# Altium integrated library Supernova.IntLib: 136 symbols (part 2 of 2)
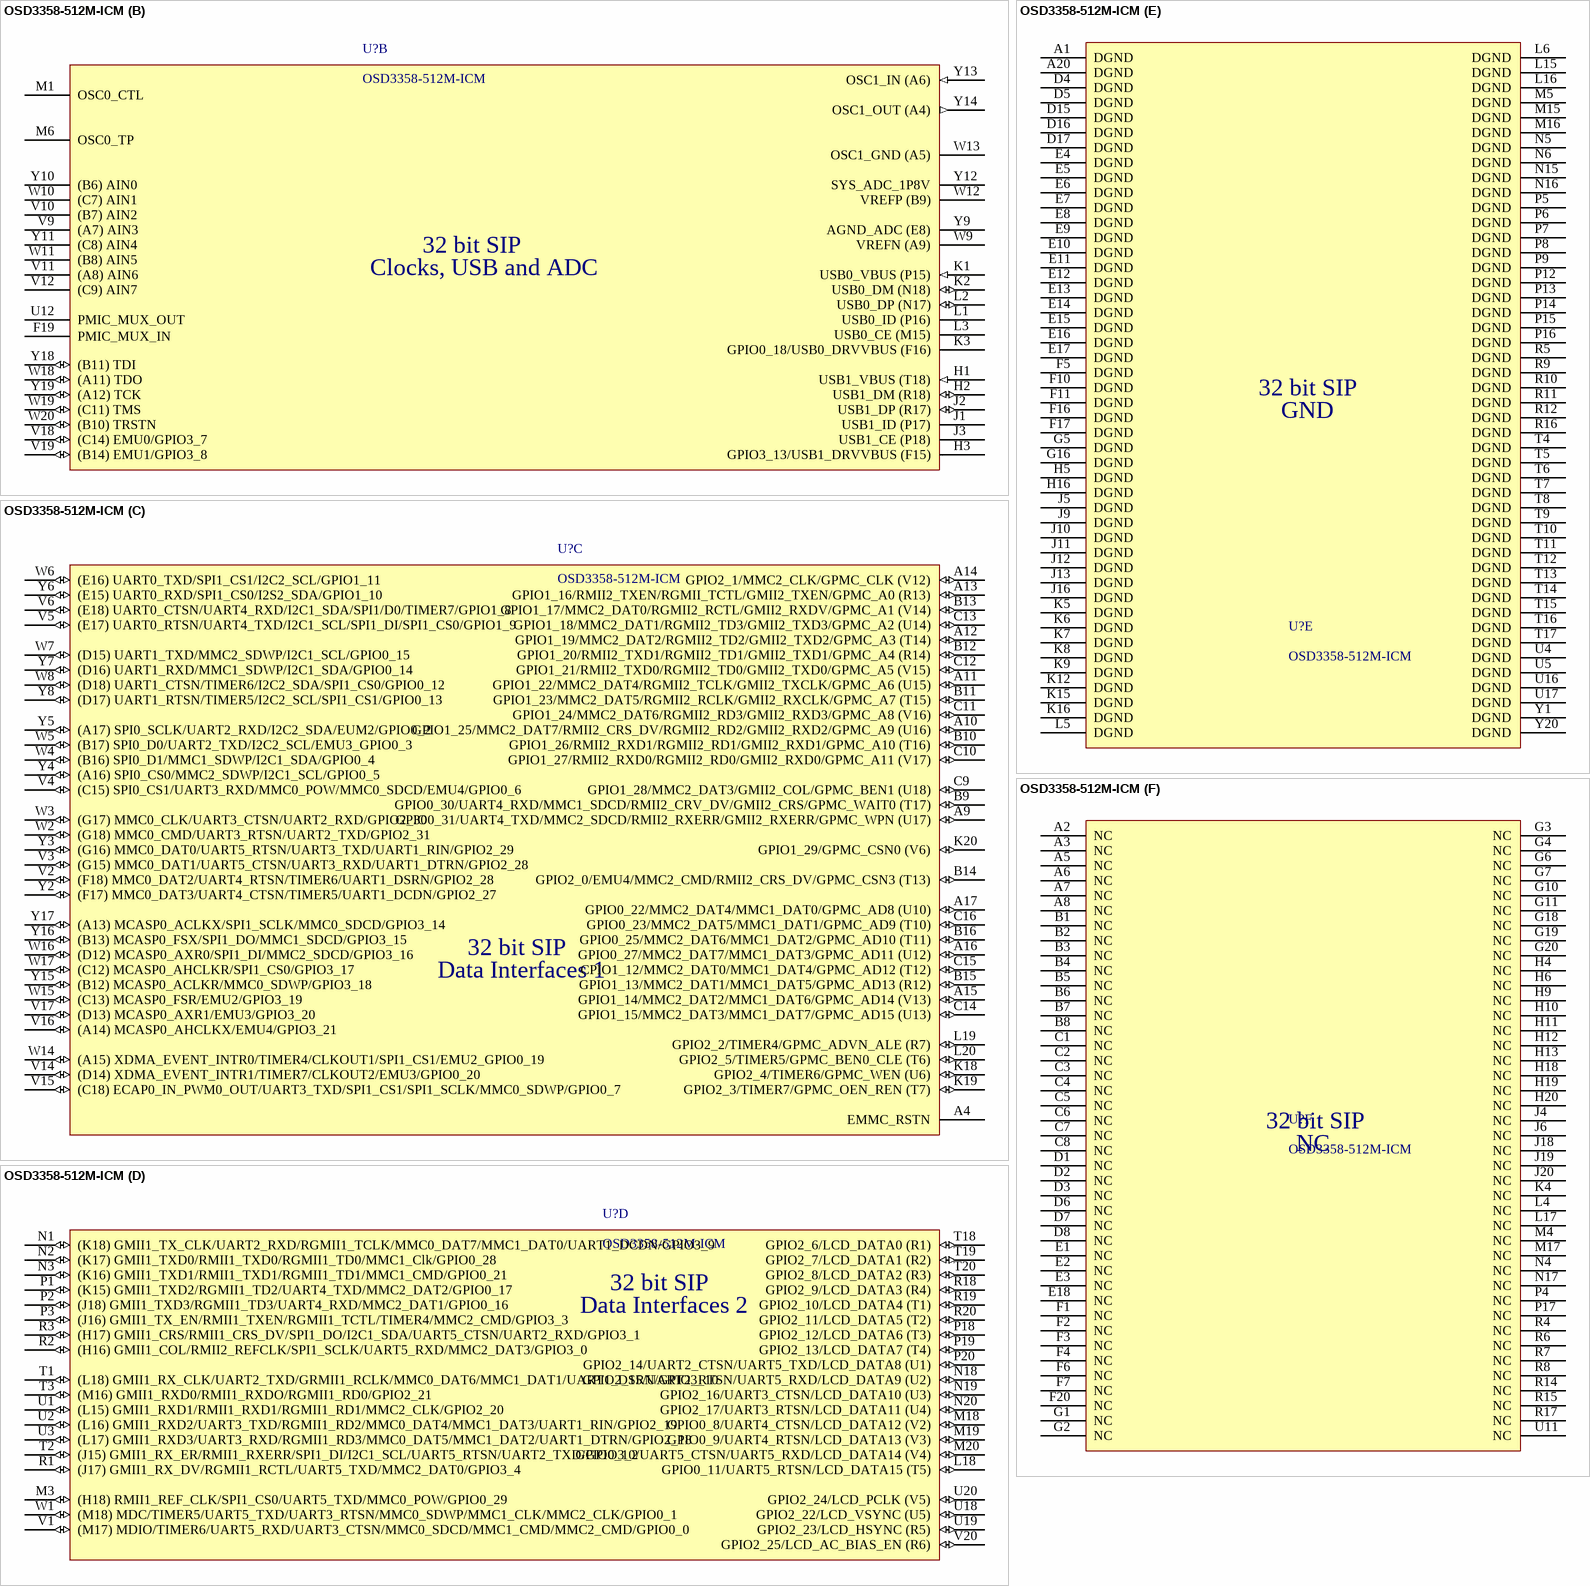
[diagram p12: symbol OSD3358-512M-ICM]

## OSD3358-512M-ICM
designator U?
IC Processor 32bit SIP with eMMC; Manufacturer: Octavo Systems; PackageDescription: 400-Ball Grid Array, 27x27x3 mm, Pitch 1.27 mm; Package: FBGA; Pin Count: 400-ball; Mounting Technology: Surface Mount; ComponentLink1Description: Manufacturer URL; ComponentLink1URL: http://www.octavosystems.com/; PackageReference: FBGA-400; PartNumber: OSD3358-512M-ICM
footprint BGA-400 1.27mm (BGA, 400-Leads, Body 27.00x27.00mmx2.60mm, Pitch 1.27mm)
part A pins: A18 PMIC_PB_IN (io), A19 PMIC_NRESET (io), B17 WARMRSTN (A10) (io), B18 VIN_USB (power), B19 VIN_USB (power), B20 VIN_USB (power), C17 PWRONRSTN_ON (io), C18 VIN_AC (power), C19 VIN_AC (power), C20 VIN_AC (power), D9 PMIC_POWER_EN (io), D10 PMIC_PWR_EN (io), D11 PWRONRSTN (B15) (io), D12 PMIC_PGOOD (io), D13 (B5) RTC_PWRONRSTN (io), D14 PMIC_LDO_PGOOD (io), D18 VIN_BAT (power), D19 VIN_BAT (power), D20 VIN_BAT (power), E19 PMIC_BAT_SENSE, E20 PMIC_TS, F8 EMMC_VCC (power), F9 EMMC_VCC (power), F12 SYS_VDD2_3P3V (power), F13 SYS_VDD2_3P3V (power), F14 SYS_VOUT (power), F15 SYS_VOUT (power), F18 SYS_VDD1_CTL (power), G8 EMMC_VCC (power), G9 EMMC_VCC (power), G12 SYS_VDD2_3P3V (power), G13 SYS_VDD2_3P3V (power), G14 SYS_VOUT (power), G15 SYS_VOUT (power), G17 PMIC_NWAKEUP (io), H7 EMMC_VCCQ (power), H8 EMMC_VCCQ (power), H14 SYS_VDD1_3P3V (power), H15 SYS_VDD1_3P3V (power), H17 (C5) EXT_WAKEUP (io), J7 EMMC_VCCQ (power), J8 EMMC_VCCQ (power), J14 SYS_VDD1_3P3V (power), J15 SYS_VDD1_3P3V (power), J17 PMIC_NINT (io), K10 SYS_VDD3_3P3V (power), K11 SYS_VDD3_3P3V (power), K13 SYS_RTC_1P8V (power), K14 SYS_RTC_1P8V (power), K17 (B18) EXTINTN (io), L7 SYS_VDD3_3P3V (power), L8 SYS_VDD3_3P3V (power), L9 SYS_VDD3_3P3V (power), L10 SYS_VDD3_3P3V (power), L11 SYS_VDD3_3P3V (power), L12 SYS_VDD3_3P3V (power), L13 SYS_RTC_1P8V (power), L14 SYS_RTC_1P8V (power), M2 EEPROM_WP (io), M7 VDDSHV4 (power), M8 VDDSHV5 (power), M9 VDDSHV3 (power), M10 VDDSHV2 (power), M11 VDDSHV1 (power), M12 VDDSHV6 (power), M13 VDDS_RTC (power), M14 VDDS (power), N7 SYS_VDD_1P8V (power), N8 SYS_VDD_1P8V (power), N9 SYS_VDD_1P8V (power), N10 SYS_VDD_1P8V (power), N11 SYS_VDD_1P8V (power), N12 SYS_VDD_1P8V (power), N13 SYS_VDD_1P8V (power), N14 SYS_VDD_1P8V (power), P10 SYS_VDD_1P8V (power), P11 SYS_VDD_1P8V (power), R13 VPP (power), U6 VDD_MPU (power), U7 PMIC_SDA (io), U8 PMIC_SCL (io), U9 VDDS_DDR (power), U10 VDDS_PLL (power), U13 VDD_CORE (power), U14 VDDS_RTC (power), U15 (B4) RTC_KALDO_ENN (io), V7 (C17) I2C0_SDA/TIMER4/UART2_CTSN/GPIO3_5 (io), V8 (C16) I2C0_SCL/TIMER7/UART2_RTSN/GPIO3_6 (io), V13 CAP_VDD_RTC (power)
part B pins: F19 PMIC_MUX_IN, H1 USB1_VBUS (T18) (in), H2 USB1_DM (R18) (io), H3 GPIO3_13/USB1_DRVVBUS (F15), J1 USB1_ID (P17), J2 USB1_DP (R17) (io), J3 USB1_CE (P18) (power), K1 USB0_VBUS (P15) (in), K2 USB0_DM (N18) (io), K3 GPIO0_18/USB0_DRVVBUS (F16), L1 USB0_ID (P16), L2 USB0_DP (N17) (io), L3 USB0_CE (M15) (power), M1 OSC0_CTL (power), M6 OSC0_TP (power), U12 PMIC_MUX_OUT, V9 (A7) AIN3, V10 (B7) AIN2, V11 (A8) AIN6, V12 (C9) AIN7, V18 (C14) EMU0/GPIO3_7 (io), V19 (B14) EMU1/GPIO3_8 (io), W9 VREFN (A9) (power), W10 (C7) AIN1, W11 (B8) AIN5, W12 VREFP (B9) (power), W13 OSC1_GND (A5) (power), W18 (A11) TDO (io), W19 (C11) TMS (io), W20 (B10) TRSTN (io), Y9 AGND_ADC (E8) (power), Y10 (B6) AIN0, Y11 (C8) AIN4, Y12 SYS_ADC_1P8V (power), Y13 OSC1_IN (A6) (in), Y14 OSC1_OUT (A4) (out), Y18 (B11) TDI (io), Y19 (A12) TCK (io)
part C pins: A4 EMMC_RSTN, A9 GPIO0_31/UART4_TXD/MMC2_SDCD/RMII2_RXERR/GMII2_RXERR/GPMC_WPN (U17) (io), A10 GPIO1_25/MMC2_DAT7/RMII2_CRS_DV/RGMII2_RD2/GMII2_RXD2/GPMC_A9 (U16) (io), A11 GPIO1_22/MMC2_DAT4/RGMII2_TCLK/GMII2_TXCLK/GPMC_A6 (U15) (io), A12 GPIO1_19/MMC2_DAT2/RGMII2_TD2/GMII2_TXD2/GPMC_A3 (T14) (io), A13 GPIO1_16/RMII2_TXEN/RGMII_TCTL/GMII2_TXEN/GPMC_A0 (R13) (io), A14 GPIO2_1/MMC2_CLK/GPMC_CLK (V12) (io), A15 GPIO1_14/MMC2_DAT2/MMC1_DAT6/GPMC_AD14 (V13) (io), A16 GPIO0_27/MMC2_DAT7/MMC1_DAT3/GPMC_AD11 (U12) (io), A17 GPIO0_22/MMC2_DAT4/MMC1_DAT0/GPMC_AD8 (U10) (io), B9 GPIO0_30/UART4_RXD/MMC1_SDCD/RMII2_CRV_DV/GMII2_CRS/GPMC_WAIT0 (T17) (io), B10 GPIO1_26/RMII2_RXD1/RGMII2_RD1/GMII2_RXD1/GPMC_A10 (T16) (io), B11 GPIO1_23/MMC2_DAT5/RGMII2_RCLK/GMII2_RXCLK/GPMC_A7 (T15) (io), B12 GPIO1_20/RMII2_TXD1/RGMII2_TD1/GMII2_TXD1/GPMC_A4 (R14) (io), B13 GPIO1_17/MMC2_DAT0/RGMII2_RCTL/GMII2_RXDV/GPMC_A1 (V14) (io), B14 GPIO2_0/EMU4/MMC2_CMD/RMII2_CRS_DV/GPMC_CSN3 (T13) (io), B15 GPIO1_13/MMC2_DAT1/MMC1_DAT5/GPMC_AD13 (R12) (io), B16 GPIO0_25/MMC2_DAT6/MMC1_DAT2/GPMC_AD10 (T11) (io), C9 GPIO1_28/MMC2_DAT3/GMII2_COL/GPMC_BEN1 (U18) (io), C10 GPIO1_27/RMII2_RXD0/RGMII2_RD0/GMII2_RXD0/GPMC_A11 (V17) (io), C11 GPIO1_24/MMC2_DAT6/RGMII2_RD3/GMII2_RXD3/GPMC_A8 (V16) (io), C12 GPIO1_21/RMII2_TXD0/RGMII2_TD0/GMII2_TXD0/GPMC_A5 (V15) (io), C13 GPIO1_18/MMC2_DAT1/RGMII2_TD3/GMII2_TXD3/GPMC_A2 (U14) (io), C14 GPIO1_15/MMC2_DAT3/MMC1_DAT7/GPMC_AD15 (U13) (io), C15 CPIO1_12/MMC2_DAT0/MMC1_DAT4/GPMC_AD12 (T12) (io), C16 GPIO0_23/MMC2_DAT5/MMC1_DAT1/GPMC_AD9 (T10) (io), K18 GPIO2_4/TIMER6/GPMC_WEN (U6) (io), K19 GPIO2_3/TIMER7/GPMC_OEN_REN (T7) (io), K20 GPIO1_29/GPMC_CSN0 (V6) (io), L19 GPIO2_2/TIMER4/GPMC_ADVN_ALE (R7) (io), L20 GPIO2_5/TIMER5/GPMC_BEN0_CLE (T6) (io), V2 (F18) MMC0_DAT2/UART4_RTSN/TIMER6/UART1_DSRN/GPIO2_28 (io), V3 (G15) MMC0_DAT1/UART5_CTSN/UART3_RXD/UART1_DTRN/GPIO2_28 (io), V4 (C15) SPI0_CS1/UART3_RXD/MMC0_POW/MMC0_SDCD/EMU4/GPIO0_6 (io), V5 (E17) UART0_RTSN/UART4_TXD/I2C1_SCL/SPI1_DI/SPI1_CS0/GPIO1_9 (io), V6 (E18) UART0_CTSN/UART4_RXD/I2C1_SDA/SPI1/D0/TIMER7/GPIO1_8 (io), V14 (D14) XDMA_EVENT_INTR1/TIMER7/CLKOUT2/EMU3/GPIO0_20 (io), V15 (C18) ECAP0_IN_PWM0_OUT/UART3_TXD/SPI1_CS1/SPI1_SCLK/MMC0_SDWP/GPIO0_7 (io), V16 (A14) MCASP0_AHCLKX/EMU4/GPIO3_21 (io), V17 (D13) MCASP0_AXR1/EMU3/GPIO3_20 (io), W2 (G18) MMC0_CMD/UART3_RTSN/UART2_TXD/GPIO2_31 (io), W3 (G17) MMC0_CLK/UART3_CTSN/UART2_RXD/GPIO2_30 (io), W4 (B16) SPI0_D1/MMC1_SDWP/I2C1_SDA/GPIO0_4 (io), W5 (B17) SPI0_D0/UART2_TXD/I2C2_SCL/EMU3_GPIO0_3 (io), W6 (E16) UART0_TXD/SPI1_CS1/I2C2_SCL/GPIO1_11 (io), W7 (D15) UART1_TXD/MMC2_SDWP/I2C1_SCL/GPIO0_15 (io), W8 (D18) UART1_CTSN/TIMER6/I2C2_SDA/SPI1_CS0/GPIO0_12 (io), W14 (A15) XDMA_EVENT_INTR0/TIMER4/CLKOUT1/SPI1_CS1/EMU2_GPIO0_19 (io), W15 (C13) MCASP0_FSR/EMU2/GPIO3_19 (io), W16 (D12) MCASP0_AXR0/SPI1_DI/MMC2_SDCD/GPIO3_16 (io), W17 (C12) MCASP0_AHCLKR/SPI1_CS0/GPIO3_17 (io), Y2 (F17) MMC0_DAT3/UART4_CTSN/TIMER5/UART1_DCDN/GPIO2_27 (io), Y3 (G16) MMC0_DAT0/UART5_RTSN/UART3_TXD/UART1_RIN/GPIO2_29 (io), Y4 (A16) SPI0_CS0/MMC2_SDWP/I2C1_SCL/GPIO0_5 (io), Y5 (A17) SPI0_SCLK/UART2_RXD/I2C2_SDA/EUM2/GPIO0_2 (io), Y6 (E15) UART0_RXD/SPI1_CS0/I2S2_SDA/GPIO1_10 (io), Y7 (D16) UART1_RXD/MMC1_SDWP/I2C1_SDA/GPIO0_14 (io), Y8 (D17) UART1_RTSN/TIMER5/I2C2_SCL/SPI1_CS1/GPIO0_13 (io), Y15 (B12) MCASP0_ACLKR/MMC0_SDWP/GPIO3_18 (io), Y16 (B13) MCASP0_FSX/SPI1_DO/MMC1_SDCD/GPIO3_15 (io), Y17 (A13) MCASP0_ACLKX/SPI1_SCLK/MMC0_SDCD/GPIO3_14 (io)
part D pins: L18 GPIO0_11/UART5_RTSN/LCD_DATA15 (T5) (io), M3 (H18) RMII1_REF_CLK/SPI1_CS0/UART5_TXD/MMC0_POW/GPIO0_29 (io), M18 GPIO0_8/UART4_CTSN/LCD_DATA12 (V2) (io), M19 GPIO0_9/UART4_RTSN/LCD_DATA13 (V3) (io), M20 GPIO0_10/UART5_CTSN/UART5_RXD/LCD_DATA14 (V4) (io), N1 (K18) GMII1_TX_CLK/UART2_RXD/RGMII1_TCLK/MMC0_DAT7/MMC1_DAT0/UART1_DCDN/GPIO3_9 (io), N2 (K17) GMII1_TXD0/RMII1_TXD0/RGMII1_TD0/MMC1_Clk/GPIO0_28 (io), N3 (K16) GMII1_TXD1/RMII1_TXD1/RGMII1_TD1/MMC1_CMD/GPIO0_21 (io), N18 GPIO2_15/UART2_RTSN/UART5_RXD/LCD_DATA9 (U2) (io), N19 GPIO2_16/UART3_CTSN/LCD_DATA10 (U3) (io), N20 GPIO2_17/UART3_RTSN/LCD_DATA11 (U4) (io), P1 (K15) GMII1_TXD2/RGMII1_TD2/UART4_TXD/MMC2_DAT2/GPIO0_17 (io), P2 (J18) GMII1_TXD3/RGMII1_TD3/UART4_RXD/MMC2_DAT1/GPIO0_16 (io), P3 (J16) GMII1_TX_EN/RMII1_TXEN/RGMII1_TCTL/TIMER4/MMC2_CMD/GPIO3_3 (io), P18 GPIO2_12/LCD_DATA6 (T3) (io), P19 GPIO2_13/LCD_DATA7 (T4) (io), P20 GPIO2_14/UART2_CTSN/UART5_TXD/LCD_DATA8 (U1) (io), R1 (J17) GMII1_RX_DV/RGMII1_RCTL/UART5_TXD/MMC2_DAT0/GPIO3_4 (io), R2 (H16) GMII1_COL/RMII2_REFCLK/SPI1_SCLK/UART5_RXD/MMC2_DAT3/GPIO3_0 (io), R3 (H17) GMII1_CRS/RMII1_CRS_DV/SPI1_DO/I2C1_SDA/UART5_CTSN/UART2_RXD/GPIO3_1 (io), R18 GPIO2_9/LCD_DATA3 (R4) (io), R19 GPIO2_10/LCD_DATA4 (T1) (io), R20 GPIO2_11/LCD_DATA5 (T2) (io), T1 (L18) GMII1_RX_CLK/UART2_TXD/GRMII1_RCLK/MMC0_DAT6/MMC1_DAT1/UART1_DSRN/GPIO3_10 (io), T2 (J15) GMII1_RX_ER/RMII1_RXERR/SPI1_DI/I2C1_SCL/UART5_RTSN/UART2_TXD/GPIO3_2 (io), T3 (M16) GMII1_RXD0/RMII1_RXDO/RGMII1_RD0/GPIO2_21 (io), T18 GPIO2_6/LCD_DATA0 (R1) (io), T19 GPIO2_7/LCD_DATA1 (R2) (io), T20 GPIO2_8/LCD_DATA2 (R3) (io), U1 (L15) GMII1_RXD1/RMII1_RXD1/RGMII1_RD1/MMC2_CLK/GPIO2_20 (io), U2 (L16) GMII1_RXD2/UART3_TXD/RGMII1_RD2/MMC0_DAT4/MMC1_DAT3/UART1_RIN/GPIO2_19 (io), U3 (L17) GMII1_RXD3/UART3_RXD/RGMII1_RD3/MMC0_DAT5/MMC1_DAT2/UART1_DTRN/GPIO2_18 (io), U18 GPIO2_22/LCD_VSYNC (U5) (io), U19 GPIO2_23/LCD_HSYNC (R5) (io), U20 GPIO2_24/LCD_PCLK (V5) (io), V1 (M17) MDIO/TIMER6/UART5_RXD/UART3_CTSN/MMC0_SDCD/MMC1_CMD/MMC2_CMD/GPIO0_0 (io), V20 GPIO2_25/LCD_AC_BIAS_EN (R6) (io), W1 (M18) MDC/TIMER5/UART5_TXD/UART3_RTSN/MMC0_SDWP/MMC1_CLK/MMC2_CLK/GPIO0_1 (io)
part E pins: A1 DGND (power), A20 DGND (power), D4 DGND (power), D5 DGND (power), D15 DGND (power), D16 DGND (power), D17 DGND (power), E4 DGND (power), E5 DGND (power), E6 DGND (power), E7 DGND (power), E8 DGND (power), E9 DGND (power), E10 DGND (power), E11 DGND (power), E12 DGND (power), E13 DGND (power), E14 DGND (power), E15 DGND (power), E16 DGND (power), E17 DGND (power), F5 DGND (power), F10 DGND (power), F11 DGND (power), F16 DGND (power), F17 DGND (power), G5 DGND (power), G16 DGND (power), H5 DGND (power), H16 DGND (power), J5 DGND (power), J9 DGND (power), J10 DGND (power), J11 DGND (power), J12 DGND (power), J13 DGND (power), J16 DGND (power), K5 DGND (power), K6 DGND (power), K7 DGND (power), K8 DGND (power), K9 DGND (power), K12 DGND (power), K15 DGND (power), K16 DGND (power), L5 DGND (power), L6 DGND (power), L15 DGND (power), L16 DGND (power), M5 DGND (power), M15 DGND (power), M16 DGND (power), N5 DGND (power), N6 DGND (power), N15 DGND (power), N16 DGND (power), P5 DGND (power), P6 DGND (power), P7 DGND (power), P8 DGND (power), P9 DGND (power), P12 DGND (power), P13 DGND (power), P14 DGND (power), P15 DGND (power), P16 DGND (power), R5 DGND (power), R9 DGND (power), R10 DGND (power), R11 DGND (power), R12 DGND (power), R16 DGND (power), T4 DGND (power), T5 DGND (power), T6 DGND (power), T7 DGND (power), T8 DGND (power), T9 DGND (power), T10 DGND (power), T11 DGND (power), T12 DGND (power), T13 DGND (power), T14 DGND (power), T15 DGND (power), T16 DGND (power), T17 DGND (power), U4 DGND (power), U5 DGND (power), U16 DGND (power), U17 DGND (power), Y1 DGND (power), Y20 DGND (power)
part F pins: A2 NC (power), A3 NC (power), A5 NC (power), A6 NC (power), A7 NC (power), A8 NC (power), B1 NC (power), B2 NC (power), B3 NC (power), B4 NC (power), B5 NC (power), B6 NC (power), B7 NC (power), B8 NC (power), C1 NC (power), C2 NC (power), C3 NC (power), C4 NC (power), C5 NC (power), C6 NC (power), C7 NC (power), C8 NC (power), D1 NC (power), D2 NC (power), D3 NC (power), D6 NC (power), D7 NC (power), D8 NC (power), E1 NC (power), E2 NC (power), E3 NC (power), E18 NC (power), F1 NC (power), F2 NC (power), F3 NC (power), F4 NC (power), F6 NC (power), F7 NC (power), F20 NC (power), G1 NC (power), G2 NC (power), G3 NC (power), G4 NC (power), G6 NC (power), G7 NC (power), G10 NC (power), G11 NC (power), G18 NC (power), G19 NC (power), G20 NC (power), H4 NC (power), H6 NC (power), H9 NC (power), H10 NC (power), H11 NC (power), H12 NC (power), H13 NC (power), H18 NC (power), H19 NC (power), H20 NC (power), J4 NC (power), J6 NC (power), J18 NC (power), J19 NC (power), J20 NC (power), K4 NC (power), L4 NC (power), L17 NC (power), M4 NC (power), M17 NC (power), N4 NC (power), N17 NC (power), P4 NC (power), P17 NC (power), R4 NC (power), R6 NC (power), R7 NC (power), R8 NC (power), R14 NC (power), R15 NC (power), R17 NC (power), U11 NC (power)
part A text: 32 bit SIP; Power Interfaces; NC if RTC Enabled; *DO NOT CONNECT; *TEST POINTS ONLY
part B text: 32 bit SIP; Clocks, USB and ADC
part C text: 32 bit SIP; Data Interfaces 1
part D text: 32 bit SIP; Data Interfaces 2
part E text: 32 bit SIP; GND
part F text: 32 bit SIP

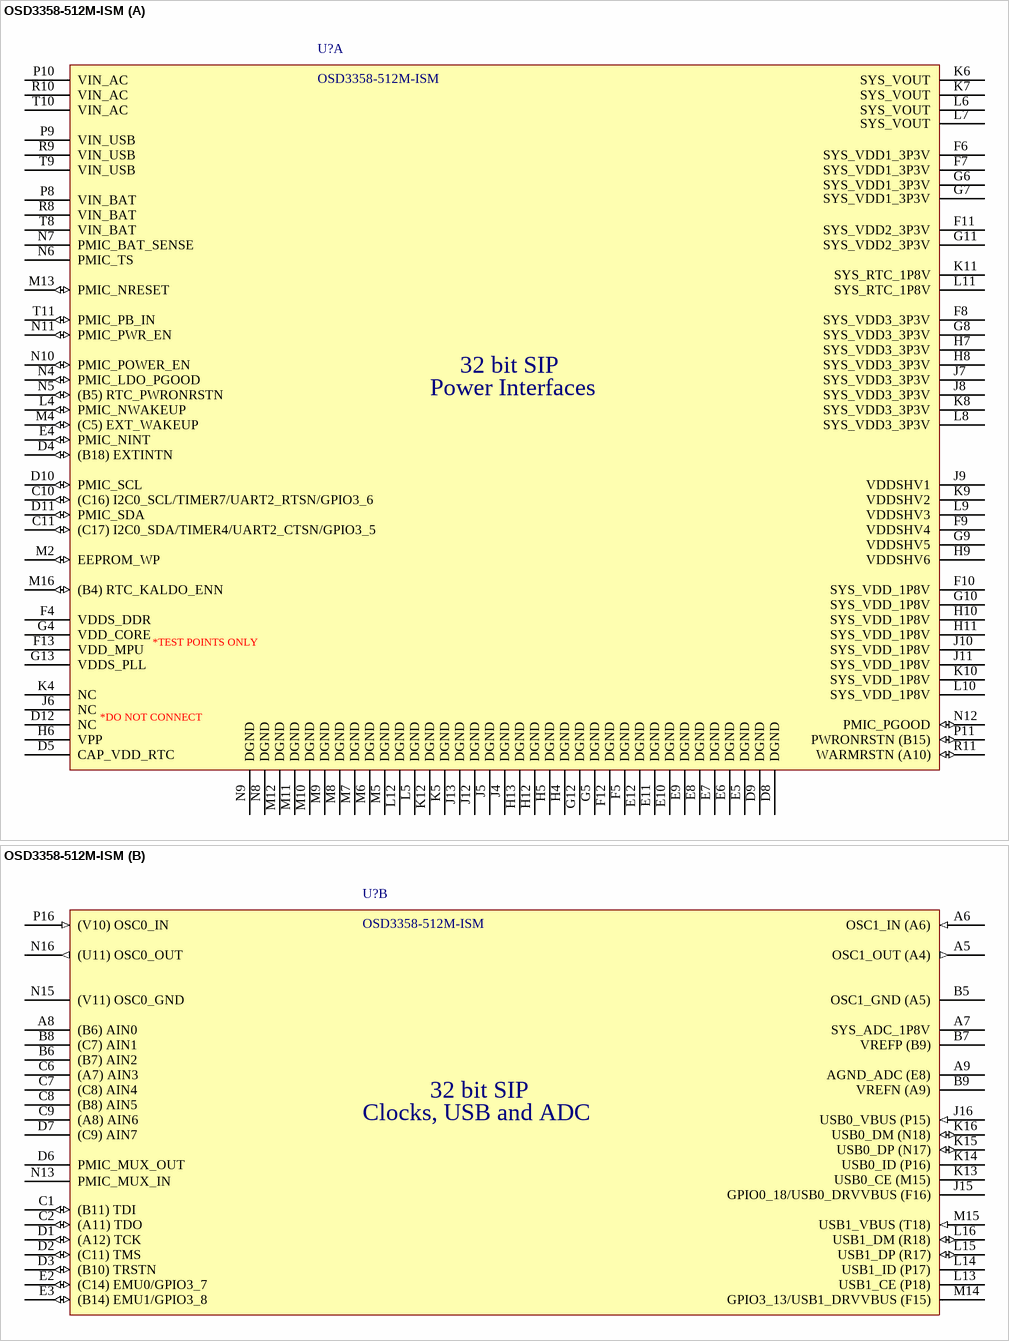
[diagram p8: symbol OSD3358-512M-ISM]

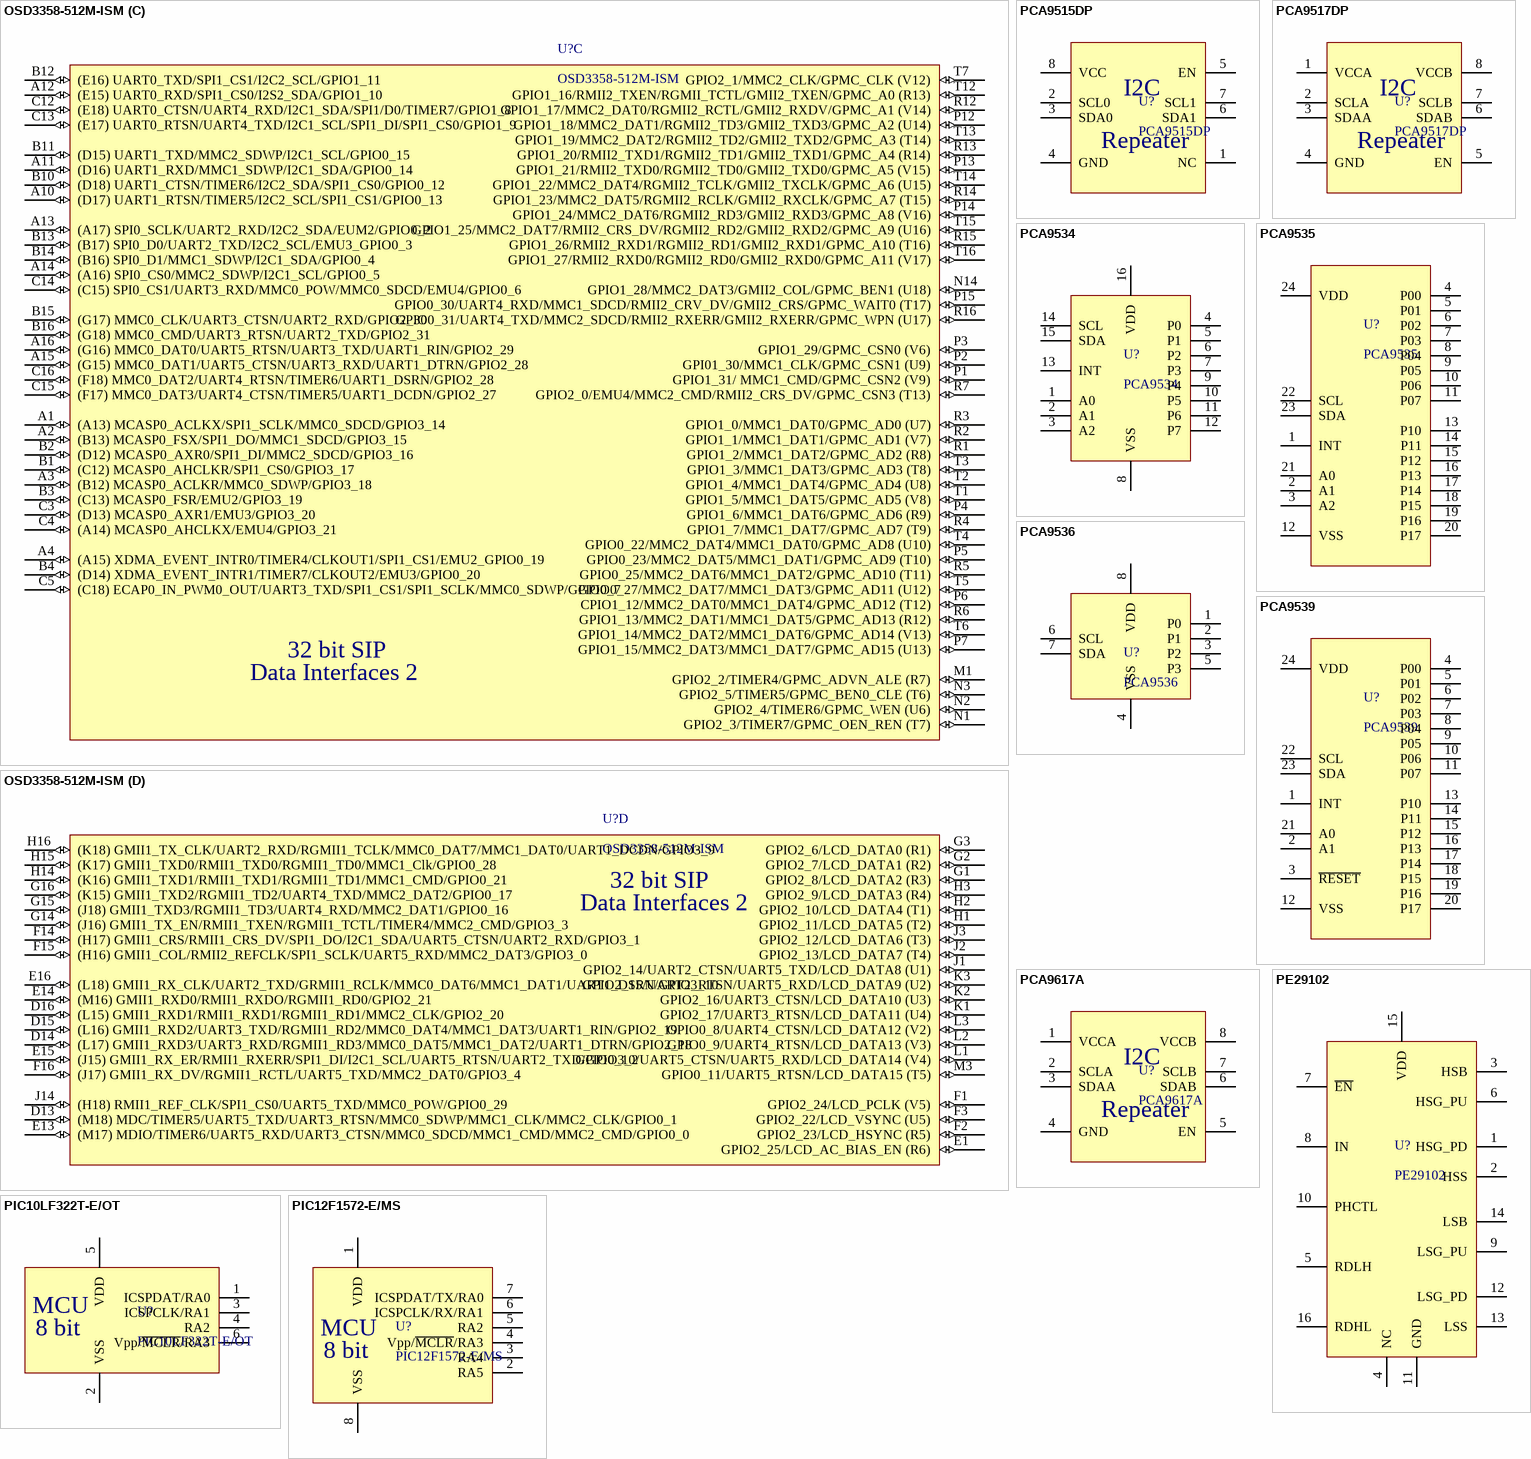
[diagram p9: symbols OSD3358-512M-ISM to PIC12F1572-E/MS]

## OSD3358-512M-ISM
designator U?
IC Processor 32bit SIP; Manufacturer: Octavo Systems; PackageDescription: 256-Ball Grid Array, 21x21x3 mm, Pitch 1.27 mm; Package: FBGA; Pin Count: 256-ball; Mounting Technology: Surface Mount; ComponentLink1Description: Manufacturer URL; ComponentLink1URL: http://www.octavosystems.com/; PackageReference: FBGA-256; Supplier 1: Digi-Key; Supplier Part Number 1: 1676-1004-ND; PartNumber: OSD3358-512M-ISM
footprint BGA-265 1.27mm (BGA_16x16_1p27mm)
part A pins: C10 (C16) I2C0_SCL/TIMER7/UART2_RTSN/GPIO3_6 (io), C11 (C17) I2C0_SDA/TIMER4/UART2_CTSN/GPIO3_5 (io), D4 (B18) EXTINTN (io), D5 CAP_VDD_RTC (power), D8 DGND (power), D9 DGND (power), D10 PMIC_SCL (io), D11 PMIC_SDA (io), D12 NC (power), E4 PMIC_NINT (io), E5 DGND (power), E6 DGND (power), E7 DGND (power), E8 DGND (power), E9 DGND (power), E10 DGND (power), E11 DGND (power), E12 DGND (power), F4 VDDS_DDR (power), F5 DGND (power), F6 SYS_VDD1_3P3V (power), F7 SYS_VDD1_3P3V (power), F8 SYS_VDD3_3P3V (power), F9 VDDSHV4 (power), F10 SYS_VDD_1P8V (power), F11 SYS_VDD2_3P3V (power), F12 DGND (power), F13 VDD_MPU (power), G4 VDD_CORE (power), G5 DGND (power), G6 SYS_VDD1_3P3V (power), G7 SYS_VDD1_3P3V (power), G8 SYS_VDD3_3P3V (power), G9 VDDSHV5 (power), G10 SYS_VDD_1P8V (power), G11 SYS_VDD2_3P3V (power), G12 DGND (power), G13 VDDS_PLL (power), H4 DGND (power), H5 DGND (power), H6 VPP (power), H7 SYS_VDD3_3P3V (power), H8 SYS_VDD3_3P3V (power), H9 VDDSHV6 (power), H10 SYS_VDD_1P8V (power), H11 SYS_VDD_1P8V (power), H12 DGND (power), H13 DGND (power), J4 DGND (power), J5 DGND (power), J6 NC (power), J7 SYS_VDD3_3P3V (power), J8 SYS_VDD3_3P3V (power), J9 VDDSHV1 (power), J10 SYS_VDD_1P8V (power), J11 SYS_VDD_1P8V (power), J12 DGND (power), J13 DGND (power), K4 NC (power), K5 DGND (power), K6 SYS_VOUT (power), K7 SYS_VOUT (power), K8 SYS_VDD3_3P3V (power), K9 VDDSHV2 (power), K10 SYS_VDD_1P8V (power), K11 SYS_RTC_1P8V (power), K12 DGND (power), L4 PMIC_NWAKEUP (io), L5 DGND (power), L6 SYS_VOUT (power), L7 SYS_VOUT (power), L8 SYS_VDD3_3P3V (power), L9 VDDSHV3 (power), L10 SYS_VDD_1P8V (power), L11 SYS_RTC_1P8V (power), L12 DGND (power), M2 EEPROM_WP (io), M4 (C5) EXT_WAKEUP (io), M5 DGND (power), M6 DGND (power), M7 DGND (power), M8 DGND (power), M9 DGND (power), M10 DGND (power), M11 DGND (power), M12 DGND (power), M13 PMIC_NRESET (io), M16 (B4) RTC_KALDO_ENN (io), N4 PMIC_LDO_PGOOD (io), N5 (B5) RTC_PWRONRSTN (io), N6 PMIC_TS, N7 PMIC_BAT_SENSE, N8 DGND (power), N9 DGND (power), N10 PMIC_POWER_EN (io), N11 PMIC_PWR_EN (io), N12 PMIC_PGOOD (io), P8 VIN_BAT (power), P9 VIN_USB (power), P10 VIN_AC (power), P11 PWRONRSTN (B15) (io), R8 VIN_BAT (power), R9 VIN_USB (power), R10 VIN_AC (power), R11 WARMRSTN (A10) (io), T8 VIN_BAT (power), T9 VIN_USB (power), T10 VIN_AC (power), T11 PMIC_PB_IN (io)
part B pins: A5 OSC1_OUT (A4) (out), A6 OSC1_IN (A6) (in), A7 SYS_ADC_1P8V (power), A8 (B6) AIN0, A9 AGND_ADC (E8) (power), B5 OSC1_GND (A5) (power), B6 (B7) AIN2, B7 VREFP (B9) (power), B8 (C7) AIN1, B9 VREFN (A9) (power), C1 (B11) TDI (io), C2 (A11) TDO (io), C6 (A7) AIN3, C7 (C8) AIN4, C8 (B8) AIN5, C9 (A8) AIN6, D1 (A12) TCK (io), D2 (C11) TMS (io), D3 (B10) TRSTN (io), D6 PMIC_MUX_OUT, D7 (C9) AIN7, E2 (C14) EMU0/GPIO3_7 (io), E3 (B14) EMU1/GPIO3_8 (io), J15 GPIO0_18/USB0_DRVVBUS (F16), J16 USB0_VBUS (P15) (in), K13 USB0_CE (M15) (power), K14 USB0_ID (P16), K15 USB0_DP (N17) (io), K16 USB0_DM (N18) (io), L13 USB1_CE (P18) (power), L14 USB1_ID (P17), L15 USB1_DP (R17) (io), L16 USB1_DM (R18) (io), M14 GPIO3_13/USB1_DRVVBUS (F15), M15 USB1_VBUS (T18) (in), N13 PMIC_MUX_IN, N15 (V11) OSC0_GND (power), N16 (U11) OSC0_OUT (out), P16 (V10) OSC0_IN (in)
part C pins: A1 (A13) MCASP0_ACLKX/SPI1_SCLK/MMC0_SDCD/GPIO3_14 (io), A2 (B13) MCASP0_FSX/SPI1_DO/MMC1_SDCD/GPIO3_15 (io), A3 (B12) MCASP0_ACLKR/MMC0_SDWP/GPIO3_18 (io), A4 (A15) XDMA_EVENT_INTR0/TIMER4/CLKOUT1/SPI1_CS1/EMU2_GPIO0_19 (io), A10 (D17) UART1_RTSN/TIMER5/I2C2_SCL/SPI1_CS1/GPIO0_13 (io), A11 (D16) UART1_RXD/MMC1_SDWP/I2C1_SDA/GPIO0_14 (io), A12 (E15) UART0_RXD/SPI1_CS0/I2S2_SDA/GPIO1_10 (io), A13 (A17) SPI0_SCLK/UART2_RXD/I2C2_SDA/EUM2/GPIO0_2 (io), A14 (A16) SPI0_CS0/MMC2_SDWP/I2C1_SCL/GPIO0_5 (io), A15 (G15) MMC0_DAT1/UART5_CTSN/UART3_RXD/UART1_DTRN/GPIO2_28 (io), A16 (G16) MMC0_DAT0/UART5_RTSN/UART3_TXD/UART1_RIN/GPIO2_29 (io), B1 (C12) MCASP0_AHCLKR/SPI1_CS0/GPIO3_17 (io), B2 (D12) MCASP0_AXR0/SPI1_DI/MMC2_SDCD/GPIO3_16 (io), B3 (C13) MCASP0_FSR/EMU2/GPIO3_19 (io), B4 (D14) XDMA_EVENT_INTR1/TIMER7/CLKOUT2/EMU3/GPIO0_20 (io), B10 (D18) UART1_CTSN/TIMER6/I2C2_SDA/SPI1_CS0/GPIO0_12 (io), B11 (D15) UART1_TXD/MMC2_SDWP/I2C1_SCL/GPIO0_15 (io), B12 (E16) UART0_TXD/SPI1_CS1/I2C2_SCL/GPIO1_11 (io), B13 (B17) SPI0_D0/UART2_TXD/I2C2_SCL/EMU3_GPIO0_3 (io), B14 (B16) SPI0_D1/MMC1_SDWP/I2C1_SDA/GPIO0_4 (io), B15 (G17) MMC0_CLK/UART3_CTSN/UART2_RXD/GPIO2_30 (io), B16 (G18) MMC0_CMD/UART3_RTSN/UART2_TXD/GPIO2_31 (io), C3 (D13) MCASP0_AXR1/EMU3/GPIO3_20 (io), C4 (A14) MCASP0_AHCLKX/EMU4/GPIO3_21 (io), C5 (C18) ECAP0_IN_PWM0_OUT/UART3_TXD/SPI1_CS1/SPI1_SCLK/MMC0_SDWP/GPIO0_7 (io), C12 (E18) UART0_CTSN/UART4_RXD/I2C1_SDA/SPI1/D0/TIMER7/GPIO1_8 (io), C13 (E17) UART0_RTSN/UART4_TXD/I2C1_SCL/SPI1_DI/SPI1_CS0/GPIO1_9 (io), C14 (C15) SPI0_CS1/UART3_RXD/MMC0_POW/MMC0_SDCD/EMU4/GPIO0_6 (io), C15 (F17) MMC0_DAT3/UART4_CTSN/TIMER5/UART1_DCDN/GPIO2_27 (io), C16 (F18) MMC0_DAT2/UART4_RTSN/TIMER6/UART1_DSRN/GPIO2_28 (io), M1 GPIO2_2/TIMER4/GPMC_ADVN_ALE (R7) (io), N1 GPIO2_3/TIMER7/GPMC_OEN_REN (T7) (io), N2 GPIO2_4/TIMER6/GPMC_WEN (U6) (io), N3 GPIO2_5/TIMER5/GPMC_BEN0_CLE (T6) (io), N14 GPIO1_28/MMC2_DAT3/GMII2_COL/GPMC_BEN1 (U18) (io), P1 GPIO1_31/ MMC1_CMD/GPMC_CSN2 (V9) (io), P2 GPI01_30/MMC1_CLK/GPMC_CSN1 (U9) (io), P3 GPIO1_29/GPMC_CSN0 (V6) (io), P4 GPIO1_6/MMC1_DAT6/GPMC_AD6 (R9) (io), P5 GPIO0_23/MMC2_DAT5/MMC1_DAT1/GPMC_AD9 (T10) (io), P6 CPIO1_12/MMC2_DAT0/MMC1_DAT4/GPMC_AD12 (T12) (io), P7 GPIO1_15/MMC2_DAT3/MMC1_DAT7/GPMC_AD15 (U13) (io), P12 GPIO1_18/MMC2_DAT1/RGMII2_TD3/GMII2_TXD3/GPMC_A2 (U14) (io), P13 GPIO1_21/RMII2_TXD0/RGMII2_TD0/GMII2_TXD0/GPMC_A5 (V15) (io), P14 GPIO1_24/MMC2_DAT6/RGMII2_RD3/GMII2_RXD3/GPMC_A8 (V16) (io), P15 GPIO0_30/UART4_RXD/MMC1_SDCD/RMII2_CRV_DV/GMII2_CRS/GPMC_WAIT0 (T17) (io), R1 GPIO1_2/MMC1_DAT2/GPMC_AD2 (R8) (io), R2 GPIO1_1/MMC1_DAT1/GPMC_AD1 (V7) (io), R3 GPIO1_0/MMC1_DAT0/GPMC_AD0 (U7) (io), R4 GPIO1_7/MMC1_DAT7/GPMC_AD7 (T9) (io), R5 GPIO0_25/MMC2_DAT6/MMC1_DAT2/GPMC_AD10 (T11) (io), R6 GPIO1_13/MMC2_DAT1/MMC1_DAT5/GPMC_AD13 (R12) (io), R7 GPIO2_0/EMU4/MMC2_CMD/RMII2_CRS_DV/GPMC_CSN3 (T13) (io), R12 GPIO1_17/MMC2_DAT0/RGMII2_RCTL/GMII2_RXDV/GPMC_A1 (V14) (io), R13 GPIO1_20/RMII2_TXD1/RGMII2_TD1/GMII2_TXD1/GPMC_A4 (R14) (io), R14 GPIO1_23/MMC2_DAT5/RGMII2_RCLK/GMII2_RXCLK/GPMC_A7 (T15) (io), R15 GPIO1_26/RMII2_RXD1/RGMII2_RD1/GMII2_RXD1/GPMC_A10 (T16) (io), R16 GPIO0_31/UART4_TXD/MMC2_SDCD/RMII2_RXERR/GMII2_RXERR/GPMC_WPN (U17) (io), T1 GPIO1_5/MMC1_DAT5/GPMC_AD5 (V8) (io), T2 GPIO1_4/MMC1_DAT4/GPMC_AD4 (U8) (io), T3 GPIO1_3/MMC1_DAT3/GPMC_AD3 (T8) (io), T4 GPIO0_22/MMC2_DAT4/MMC1_DAT0/GPMC_AD8 (U10) (io), T5 GPIO0_27/MMC2_DAT7/MMC1_DAT3/GPMC_AD11 (U12) (io), T6 GPIO1_14/MMC2_DAT2/MMC1_DAT6/GPMC_AD14 (V13) (io), T7 GPIO2_1/MMC2_CLK/GPMC_CLK (V12) (io), T12 GPIO1_16/RMII2_TXEN/RGMII_TCTL/GMII2_TXEN/GPMC_A0 (R13) (io), T13 GPIO1_19/MMC2_DAT2/RGMII2_TD2/GMII2_TXD2/GPMC_A3 (T14) (io), T14 GPIO1_22/MMC2_DAT4/RGMII2_TCLK/GMII2_TXCLK/GPMC_A6 (U15) (io), T15 GPIO1_25/MMC2_DAT7/RMII2_CRS_DV/RGMII2_RD2/GMII2_RXD2/GPMC_A9 (U16) (io), T16 GPIO1_27/RMII2_RXD0/RGMII2_RD0/GMII2_RXD0/GPMC_A11 (V17) (io)
part D pins: D13 (M18) MDC/TIMER5/UART5_TXD/UART3_RTSN/MMC0_SDWP/MMC1_CLK/MMC2_CLK/GPIO0_1 (io), D14 (L17) GMII1_RXD3/UART3_RXD/RGMII1_RD3/MMC0_DAT5/MMC1_DAT2/UART1_DTRN/GPIO2_18 (io), D15 (L16) GMII1_RXD2/UART3_TXD/RGMII1_RD2/MMC0_DAT4/MMC1_DAT3/UART1_RIN/GPIO2_19 (io), D16 (L15) GMII1_RXD1/RMII1_RXD1/RGMII1_RD1/MMC2_CLK/GPIO2_20 (io), E1 GPIO2_25/LCD_AC_BIAS_EN (R6) (io), E13 (M17) MDIO/TIMER6/UART5_RXD/UART3_CTSN/MMC0_SDCD/MMC1_CMD/MMC2_CMD/GPIO0_0 (io), E14 (M16) GMII1_RXD0/RMII1_RXDO/RGMII1_RD0/GPIO2_21 (io), E15 (J15) GMII1_RX_ER/RMII1_RXERR/SPI1_DI/I2C1_SCL/UART5_RTSN/UART2_TXD/GPIO3_2 (io), E16  (L18) GMII1_RX_CLK/UART2_TXD/GRMII1_RCLK/MMC0_DAT6/MMC1_DAT1/UART1_DSRN/GPIO3_10 (io), F1 GPIO2_24/LCD_PCLK (V5) (io), F2 GPIO2_23/LCD_HSYNC (R5) (io), F3 GPIO2_22/LCD_VSYNC (U5) (io), F14 (H17) GMII1_CRS/RMII1_CRS_DV/SPI1_DO/I2C1_SDA/UART5_CTSN/UART2_RXD/GPIO3_1 (io), F15 (H16) GMII1_COL/RMII2_REFCLK/SPI1_SCLK/UART5_RXD/MMC2_DAT3/GPIO3_0 (io), F16 (J17) GMII1_RX_DV/RGMII1_RCTL/UART5_TXD/MMC2_DAT0/GPIO3_4 (io), G1 GPIO2_8/LCD_DATA2 (R3) (io), G2 GPIO2_7/LCD_DATA1 (R2) (io), G3 GPIO2_6/LCD_DATA0 (R1) (io), G14 (J16) GMII1_TX_EN/RMII1_TXEN/RGMII1_TCTL/TIMER4/MMC2_CMD/GPIO3_3 (io), G15 (J18) GMII1_TXD3/RGMII1_TD3/UART4_RXD/MMC2_DAT1/GPIO0_16 (io), G16 (K15) GMII1_TXD2/RGMII1_TD2/UART4_TXD/MMC2_DAT2/GPIO0_17 (io), H1 GPIO2_11/LCD_DATA5 (T2) (io), H2 GPIO2_10/LCD_DATA4 (T1) (io), H3 GPIO2_9/LCD_DATA3 (R4) (io), H14 (K16) GMII1_TXD1/RMII1_TXD1/RGMII1_TD1/MMC1_CMD/GPIO0_21 (io), H15 (K17) GMII1_TXD0/RMII1_TXD0/RGMII1_TD0/MMC1_Clk/GPIO0_28 (io), H16  (K18) GMII1_TX_CLK/UART2_RXD/RGMII1_TCLK/MMC0_DAT7/MMC1_DAT0/UART1_DCDN/GPIO3_9 (io), J1 GPIO2_14/UART2_CTSN/UART5_TXD/LCD_DATA8 (U1) (io), J2 GPIO2_13/LCD_DATA7 (T4) (io), J3 GPIO2_12/LCD_DATA6 (T3) (io), J14 (H18) RMII1_REF_CLK/SPI1_CS0/UART5_TXD/MMC0_POW/GPIO0_29 (io), K1 GPIO2_17/UART3_RTSN/LCD_DATA11 (U4) (io), K2 GPIO2_16/UART3_CTSN/LCD_DATA10 (U3) (io), K3 GPIO2_15/UART2_RTSN/UART5_RXD/LCD_DATA9 (U2) (io), L1 GPIO0_10/UART5_CTSN/UART5_RXD/LCD_DATA14 (V4) (io), L2 GPIO0_9/UART4_RTSN/LCD_DATA13 (V3) (io), L3 GPIO0_8/UART4_CTSN/LCD_DATA12 (V2) (io), M3 GPIO0_11/UART5_RTSN/LCD_DATA15 (T5) (io)
part A text: 32 bit SIP; Power Interfaces; *TEST POINTS ONLY; *DO NOT CONNECT
part B text: 32 bit SIP; Clocks, USB and ADC
part C text: 32 bit SIP; Data Interfaces 2
part D text: 32 bit SIP; Data Interfaces 2

## PCA9515DP
designator U?
IC Translator I2C; Supplier 1: Digi-Key; Supplier Part Number 1: 568-1034-1-ND; Supplier 2: Digi-Key; Supplier 3: Mouser; Supplier Part Number 2: 568-1032-1-ND; Supplier Part Number 3: 771-PCA9515ADP-T; Supplier 4: Mouser; Supplier Part Number 4: 771-PCA9515DP-T
footprint TSOP-8 0.65mm (TSOP, 8-Leads, Body 3.00x3.00mm, Pitch 0.65mm, IPC Medium Density)
pins: 1 NC, 2 SCL0, 3 SDA0, 4 GND, 5 EN, 6 SDA1, 7 SCL1, 8 VCC
text: I2C; Repeater

## PCA9517DP
designator U?
IC Translator I2C, multi-master capable; Supplier 1: Digi-Key; Supplier Part Number 1: 568-1829-1-ND; Supplier 2: Mouser; Supplier Part Number 2: 771-PCA9517DP-T
footprint TSOP-8 0.65mm (TSOP, 8-Leads, Body 3.00x3.00mm, Pitch 0.65mm, IPC Medium Density)
pins: 1 VCCA, 2 SCLA, 3 SDAA, 4 GND, 5 EN, 6 SDAB, 7 SCLB, 8 VCCB
text: I2C; Repeater

## PCA9534
designator U?
IC I2C IO Expander x8; Manufacturer: NXP Semiconductors; Supplier 1: Digi-Key; Supplier Part Number 1: 568-1834-1-ND; Supplier 2: Digi-Key; Supplier 3: Digi-Key; Supplier 4: Digi-Key; Supplier Part Number 2: 568-1055-1-ND; Supplier Part Number 3: 568-6667-1-ND; Supplier Part Number 4: 296-30135-1-ND
footprint TSOP-16 0.65mm
pins: 1 A0, 2 A1, 3 A2, 4 P0, 5 P1, 6 P2, 7 P3, 8 VSS, 9 P4, 10 P5, 11 P6, 12 P7, 13 INT, 14 SCL, 15 SDA, 16 VDD

## PCA9535
designator U?
IC I2C IO Expander x16; Manufacturer: NXP Semiconductors; Supplier 1: Digi-Key; Supplier Part Number 1: 296-25129-1-ND; Supplier 2: Digi-Key; Supplier Part Number 2: 568-9913-1-ND
footprint TSOP-24 0.65mm (TSOP, 24-Leads, Body 7.80x4.40mm, Pitch 0.65mm, IPC Medium Density)
pins: 1 INT, 2 A1, 3 A2, 4 P00, 5 P01, 6 P02, 7 P03, 8 P04, 9 P05, 10 P06, 11 P07, 12 VSS, 13 P10, 14 P11, 15 P12, 16 P13, 17 P14, 18 P15, 19 P16, 20 P17, 21 A0, 22 SCL, 23 SDA, 24 VDD

## PCA9536
designator U?
IC I2C IO Expander x4; Manufacturer: NXP Semiconductors; Supplier 1: Digi-Key; Supplier Part Number 1: 296-20952-1-ND; Supplier 2: Digi-Key; Supplier Part Number 2: 568-1836-1-ND
footprint TSOP-8 0.65mm (TSOP, 8-Leads, Body 3.00x3.00mm, Pitch 0.65mm, IPC Medium Density)
pins: 1 P0, 2 P1, 3 P2, 4 VSS, 5 P3, 6 SCL, 7 SDA, 8 VDD

## PCA9539
designator U?
IC I2C IO Expander x16 + RESET; Manufacturer: NXP Semiconductors; Supplier 1: Digi-Key; Supplier Part Number 1: 296-25130-1-ND; Supplier 2: Digi-Key; Supplier Part Number 2: 296-33500-5-ND
footprint TSOP-24 0.65mm (TSOP, 24-Leads, Body 7.80x4.40mm, Pitch 0.65mm, IPC Medium Density)
pins: 1 INT, 2 A1, 3 ~{RESET}, 4 P00, 5 P01, 6 P02, 7 P03, 8 P04, 9 P05, 10 P06, 11 P07, 12 VSS, 13 P10, 14 P11, 15 P12, 16 P13, 17 P14, 18 P15, 19 P16, 20 P17, 21 A0, 22 SCL, 23 SDA, 24 VDD

## PCA9617A
designator U?
IC Translator I2C, multi-master capable, 1MHz; Supplier 1: Digi-Key; Supplier Part Number 1: 568-10211-1-ND; Supplier 2: Mouser; Supplier Part Number 2: 771-PCA9617ADPJ
footprint TSOP-8 0.65mm (TSOP, 8-Leads, Body 3.00x3.00mm, Pitch 0.65mm, IPC Medium Density)
pins: 1 VCCA, 2 SCLA, 3 SDAA, 4 GND, 5 EN, 6 SDAB, 7 SCLB, 8 VCCB
text: I2C; Repeater

## PE29102
designator U?
IC GaN FET Driver; Supplier 1: Digi-Key; Supplier 2: Digi-Key; Supplier Part Number 1: 1046-1173-1-ND; Supplier Part Number 2: 1046-1173-1-ND
footprint PE29102 (BGA, 16-Leads, Body 2.05x1.65mmx0.20mm, Pitch 0.40mm)
footprint PE29102 - 180um (BGA, 16-Leads, Body 2.05x1.65mmx0.20mm, Pitch 0.40mm)
pins: 1 HSG_PD, 2 HSS, 3 HSB, 4 NC, 5 RDLH, 6 HSG_PU, 7 ~{EN}, 8 IN, 9 LSG_PU, 10 PHCTL, 11 GND, 12 LSG_PD, 13 LSS, 14 LSB, 15 VDD, 16 RDHL

## PIC10LF322T-E/OT
designator U?
IC Processor 8 bit; Supplier 1: Digi-Key; Supplier Part Number 1: PIC10LF322T-E/OTCT-ND; Supplier 2: Mouser; Supplier 3: Digi-Key; Supplier Part Number 2: 579-PIC10LF322T-I/OT; Supplier Part Number 3: PIC10LF322T-I/OTCT-ND
footprint SOT23-6 (SOT23, 6-Leads, Body 2.90x2.45mm, Pitch 0.95mm, IPC Medium Density)
pins: 1 ICSPDAT/RA0, 2 VSS, 3 ICSPCLK/RA1, 4 RA2, 5 VDD, 6 Vpp/~{MCLR}/RA3
text: MCU; 8 bit

## PIC12F1572-E/MS
designator U?
IC Processor 8 bit; Supplier 1: Digi-Key; Supplier 2: Digi-Key; Supplier Part Number 1: PIC12F1572-E/MS-ND; Supplier Part Number 2: PIC12F1572-I/MS-ND
footprint TSOP-8 0.65mm (TSOP, 8-Leads, Body 3.00x3.00mm, Pitch 0.65mm, IPC Medium Density)
pins: 1 VDD, 2 RA5, 3 RA4, 4 Vpp/~{MCLR}/RA3, 5 RA2, 6 ICSPCLK/RX/RA1, 7 ICSPDAT/TX/RA0, 8 VSS
text: MCU; 8 bit

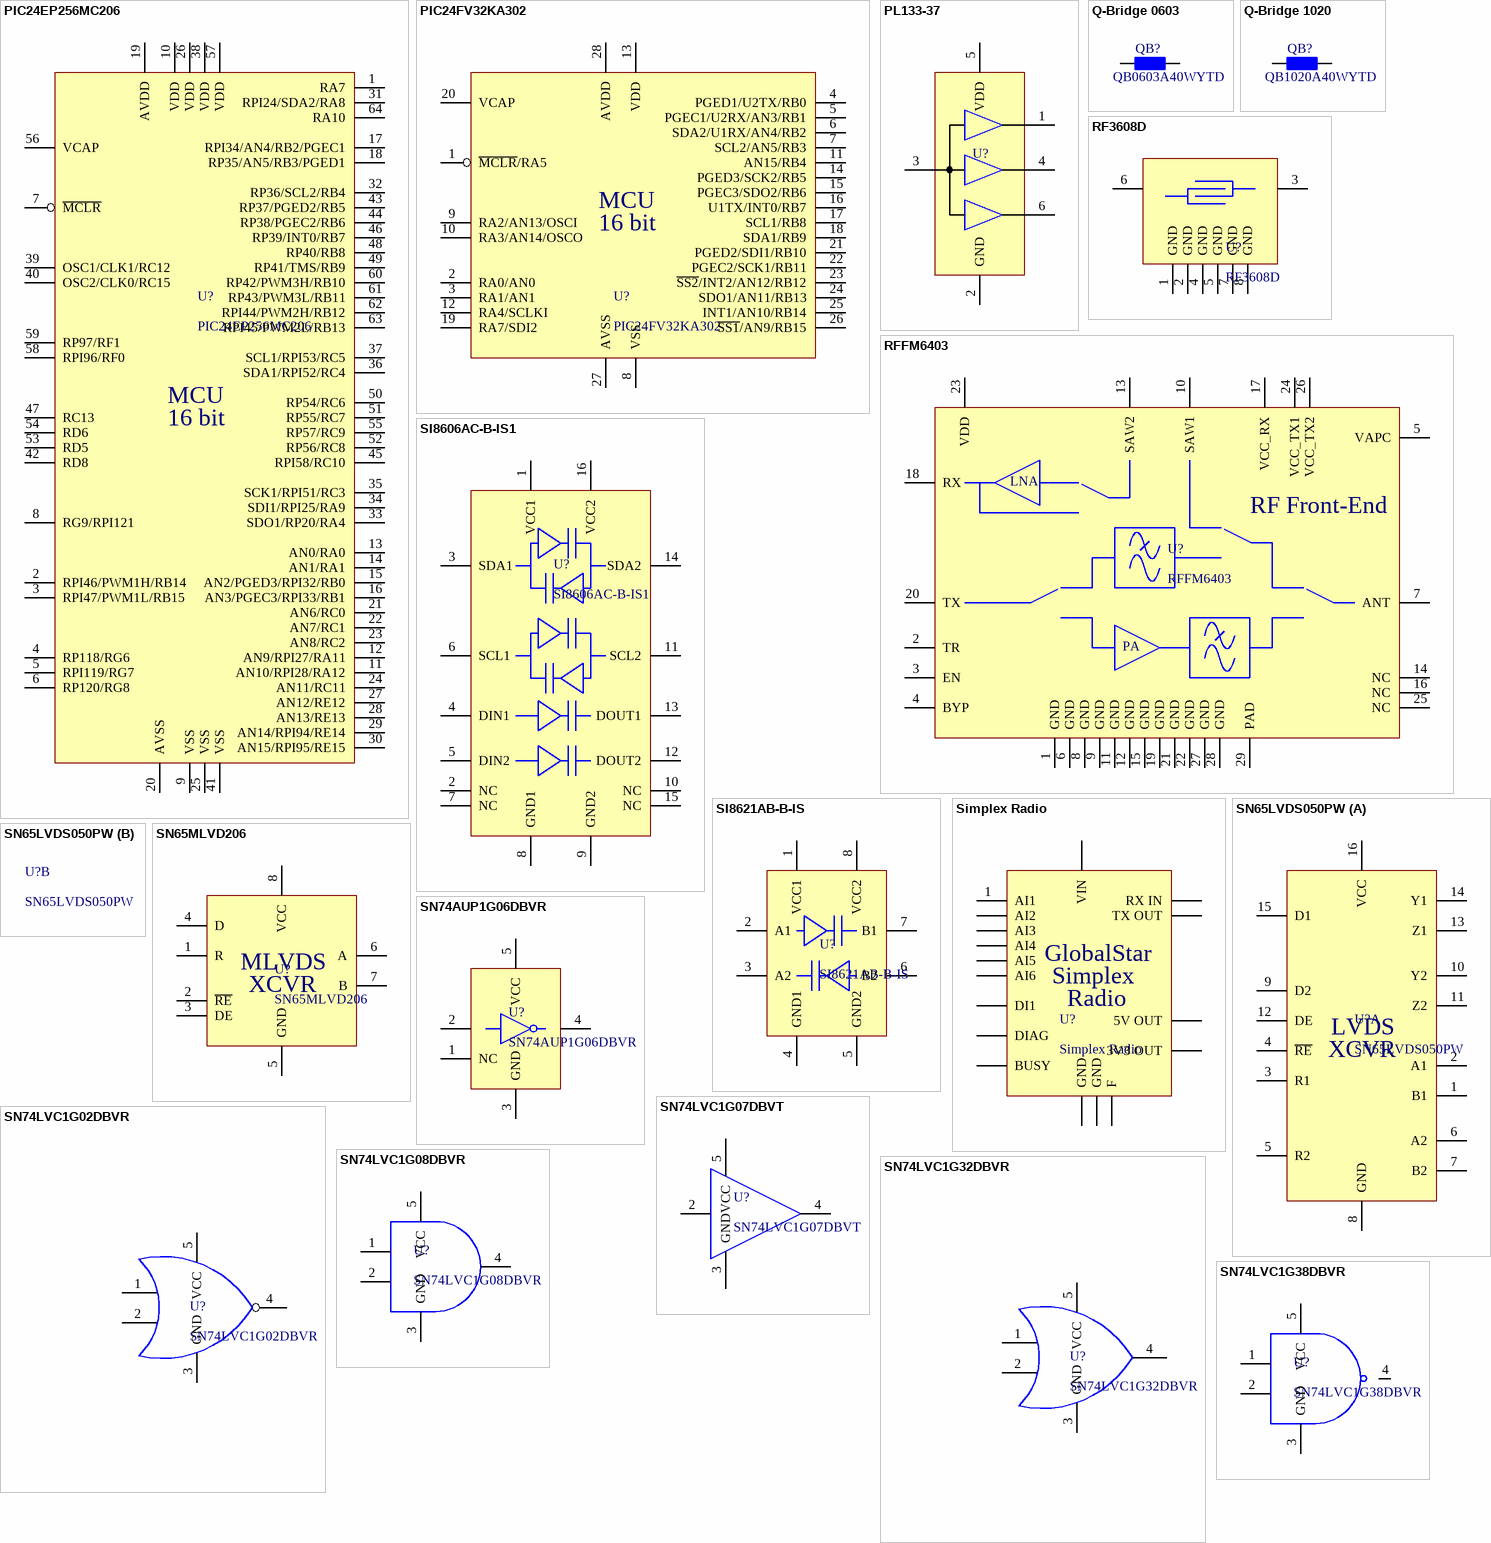
[diagram p10: symbols PIC24EP256MC206 to SN74LVC1G38DBVR]

## PIC24EP256MC206
designator U?
IC Processor 16 bit; Supplier 1: Digi-Key; Supplier Part Number 1: PIC24EP256MC206-I/PT-ND; Supplier 2: Newark; Supplier 3: Mouser; Supplier Part Number 2: 66T9184; Supplier Part Number 3: 579-PIC24256MC206IPT
footprint LQFP-64 0.5mm (TSQFP, 64-Leads, Body 10.00x10.00mm, Pitch 0.50mm, Thermal Pad 5.41x6.29mm, IPC Medium Density)
pins: 1 RA7, 2 RPI46/PWM1H/RB14, 3 RPI47/PWM1L/RB15, 4 RP118/RG6, 5 RPI119/RG7, 6 RP120/RG8, 7 ~{MCLR}, 8 RG9/RPI121, 9 VSS, 10 VDD, 11 AN10/RPI28/RA12, 12 AN9/RPI27/RA11, 13 AN0/RA0, 14 AN1/RA1, 15 AN2/PGED3/RPI32/RB0, 16 AN3/PGEC3/RPI33/RB1, 17 RPI34/AN4/RB2/PGEC1, 18 RP35/AN5/RB3/PGED1, 19 AVDD, 20 AVSS, 21 AN6/RC0, 22 AN7/RC1, 23 AN8/RC2, 24 AN11/RC11, 25 VSS, 26 VDD, 27 AN12/RE12, 28 AN13/RE13, 29 AN14/RPI94/RE14, 30 AN15/RPI95/RE15, 31 RPI24/SDA2/RA8, 32 RP36/SCL2/RB4, 33 SDO1/RP20/RA4, 34 SDI1/RPI25/RA9, 35 SCK1/RPI51/RC3, 36 SDA1/RPI52/RC4, 37 SCL1/RPI53/RC5, 38 VDD, 39 OSC1/CLK1/RC12, 40 OSC2/CLK0/RC15, 41 VSS, 42 RD8, 43 RP37/PGED2/RB5, 44 RP38/PGEC2/RB6, 45 RPI58/RC10, 46 RP39/INT0/RB7, 47 RC13, 48 RP40/RB8, 49 RP41/TMS/RB9, 50 RP54/RC6, 51 RP55/RC7, 52 RP56/RC8, 53 RD5, 54 RD6, 55 RP57/RC9, 56 VCAP, 57 VDD, 58 RPI96/RF0, 59 RP97/RF1, 60 RP42/PWM3H/RB10, 61 RP43/PWM3L/RB11, 62 RPI44/PWM2H/RB12, 63 RPI45/PWM2L/RB13, 64 RA10
text: MCU; 16 bit

## PIC24FV32KA302
designator U?
IC Processor 16 bit; Supplier 1: Digi-Key; Supplier 2: Mouser; Supplier 3: Digi-Key; Supplier 4: Newark; Supplier Part Number 1: PIC24FV32KA302-E/SS-ND; Supplier Part Number 2: 579-24FV32KA302ESS; Supplier Part Number 3: PIC24FV32KA302-I/SS-ND; Supplier Part Number 4: 29AC9500
footprint SOP-28 0.65mm (SOP, 28-Leads, Body 10.20x5.30mm, Pitch 0.65mm, Thermal Pad 3.50x2.80mm, IPC Medium Density)
pins: 1 ~{MCLR}/RA5, 2 RA0/AN0, 3 RA1/AN1, 4 PGED1/U2TX/RB0, 5 PGEC1/U2RX/AN3/RB1, 6 SDA2/U1RX/AN4/RB2, 7 SCL2/AN5/RB3, 8 VSS, 9 RA2/AN13/OSCI, 10 RA3/AN14/OSCO, 11 AN15/RB4, 12 RA4/SCLKI, 13 VDD, 14 PGED3/SCK2/RB5, 15 PGEC3/SDO2/RB6, 16 U1TX/INT0/RB7, 17 SCL1/RB8, 18 SDA1/RB9, 19 RA7/SDI2, 20 VCAP, 21 PGED2/SDI1/RB10, 22 PGEC2/SCK1/RB11, 23 ~{SS2}/INT2/AN12/RB12, 24 SDO1/AN11/RB13, 25 INT1/AN10/RB14, 26 ~{SS1}/AN9/RB15, 27 AVSS, 28 AVDD
text: MCU; 16 bit

## PL133-37
designator U?, comment PL133-37TI-R  (value not drawn)
IC Clock Buffer; Supplier 1: Digi-Key; Supplier Part Number 1: 576-4933-1-ND; Supplier 2: Mouser; Supplier 3: Digi-Key; Supplier Part Number 2: 998-PL133-37TI; Supplier Part Number 3: 576-5037-5-ND
footprint SOT23-6 (SOT23, 6-Leads, Body 2.90x2.45mm, Pitch 0.95mm, IPC Medium Density)
pins: 1 OUT1, 2 GND, 3 FIN, 4 OUT2, 5 VDD, 6 OUT3

## Q-Bridge 0603
designator QB?, comment QB0603A40WYTD
Q-Bridge 0603 0.077W/C; Revision: Altium ETH 11-03.2008; Supplier 1: Digi-Key; Supplier Part Number 1: 1284-1838-6-ND; Supplier 2: Digi-Key; Supplier Part Number 2: 1284-1834-1-ND
footprint 0603 Q-Bridge (Footprint not found)
pins: 1, 2
1 alternate drawing of the same symbol

## Q-Bridge 1020
designator QB?, comment QB1020A40WYTD
Q-Bridge 1020 0.508W/C; Revision: Altium ETH 11-03.2008; Supplier 1: Digi-Key; Supplier Part Number 1: QB1020B40WYTD-ND
footprint 1020 Q-Bridge (Chip Resistor, 2-Leads, Body 2.54x5.08mm, IPC Medium Density)
pins: 1, 2
1 alternate drawing of the same symbol

## RF3608D
designator U?
Filter SAW; Supplier 1: Digi-Key; Supplier Part Number 1: 583-1177-1-ND
footprint QFN-8 1.12/1.35mm (QFN, 8-Leads, Body 3.80x3.80mm, Pitch 1.12mm/1.35mm, IPC Medium Density)
pins: 1 GND, 2 GND, 3 GND, 4 GND, 5 GND, 6 GND, 7 GND, 8 GND

## RFFM6403
designator U?
IC RF Transmit/Recieve Module; Supplier 1: Quest; Supplier Part Number 1: RFFM6403SB
footprint PQFN-28 EP 0.75mm (PQFN, 28-Leads, Body 6.00x6.00mm, Pitch 0.75mm, Thermal Pad 2.30x2.30mm, IPC Medium Density)
pins: 1 GND, 2 TR, 3 EN, 4 BYP, 5 VAPC, 6 GND, 7 ANT, 8 GND, 9 GND, 10 SAW1, 11 GND, 12 GND, 13 SAW2, 14 NC, 15 GND, 16 NC, 17 VCC_RX, 18 RX, 19 GND, 20 TX, 21 GND, 22 GND, 23 VDD, 24 VCC_TX1, 25 NC, 26 VCC_TX2, 27 GND, 28 GND, 29 PAD
text: LNA; RF Front-End; PA

## SI8606AC-B-IS1
designator U?
IC Interface Digital Isolator; Supplier 1: Digi-Key; Supplier Part Number 1: 336-2054-5-ND; Supplier 2: Newark; Supplier 3: Mouser; Supplier Part Number 2: 54X5653; Supplier Part Number 3: 634-SI8606AC-B-IS1
footprint SOIC-16 (SOIC, 16-Leads, Body 9.90x3.90mm, Pitch 1.27mm, IPC Medium Density)
pins: 1 VCC1, 2 NC, 3 SDA1, 4 DIN1, 5 DIN2, 6 SCL1, 7 NC, 8 GND1, 9 GND2, 10 NC, 11 SCL2, 12 DOUT2, 13 DOUT1, 14 SDA2, 15 NC, 16 VCC2

## SI8621AB-B-IS
designator U?
IC Interface Digital Isolator; Supplier 1: Digi-Key; Supplier Part Number 1: 336-4354-1-ND; Supplier 2: Digi-Key; Supplier Part Number 2: SI8621AB-B-IS-ND
footprint SOIC-8 (SOIC, 8-Leads, Body 4.90x3.90mm, Pitch 1.27mm, IPC Medium Density)
pins: 1 VCC1, 2 A1, 3 A2, 4 GND1, 5 GND2, 6 B2, 7 B1, 8 VCC2

## Simplex Radio
designator U?  (no BOM)
Radio GS Simplex
footprint Simplex Radio
pins: 1 AI1, 2 AI6, 3 AI2, 4 DI1, 5 AI3, 6 DIAG, 7 AI4, 8 BUSY, 9 AI5, 10 RX IN, 11 VIN, 12 TX OUT, 13 5V OUT, 14 3V3 OUT, 15 GND, 16 GND, F
text: GlobalStar; Simplex; Radio

## SN65LVDS050PW
designator U?
IC Transciever LVDS 2x full duplex; Supplier 1: Digi-Key; Supplier 2: Digi-Key; Supplier Part Number 1: 296-12051-5-ND; Supplier Part Number 2: 296-30094-1-ND
footprint TSOP-16 0.65mm
part A pins: 1 B1, 2 A1, 3 R1, 4 ~{RE}, 5 R2, 6 A2, 7 B2, 8 GND, 9 D2, 10 Y2, 11 Z2, 12 DE, 13 Z1, 14 Y1, 15 D1, 16 VCC
1 alternate drawing of the same symbol
part A text: LVDS; XCVR

## SN65MLVD206
designator U?
IC Transciever MLVDS half duplex; Supplier 1: Digi-Key; Supplier Part Number 1: 296-39192-1-ND; Supplier 2: Digi-Key; Supplier Part Number 2: 296-14189-5-ND; Supplier 3: Newark; Supplier Part Number 3: 33AH4773; Supplier 4: Mouser; Supplier Part Number 4: 595-SN65MLVD206BD
footprint SOIC-8 (SOIC, 8-Leads, Body 4.90x3.90mm, Pitch 1.27mm, IPC Medium Density)
pins: 1 R, 2 ~{RE}, 3 DE, 4 D, 5 GND, 6 A, 7 B, 8 VCC
text: MLVDS; XCVR

## SN74AUP1G06DBVR
designator U?
IC Logic Inverter open drain; Supplier 1: Digi-Key; Supplier 2: Digi-Key; Supplier Part Number 2: 296-17561-1-ND; Supplier Part Number 1: 296-47821-1-ND
footprint SOT23-5 (SOT23, 5-Leads, Body 2.90x2.45mm, Pitch 0.95mm, IPC Medium Density)
pins: 1 NC, 2 5, 3 GND, 4 11, 5 VCC

## SN74LVC1G02DBVR
designator U?
IC Logic NOR 1 channel; Supplier 1: Digi-Key; Supplier Part Number 1: 296-11597-1-ND; Supplier 2: Digi-Key; Supplier Part Number 2: 296-32287-1-ND
footprint SOT23-5 (SOT23, 5-Leads, Body 2.90x2.45mm, Pitch 0.95mm, IPC Medium Density)
pins: 1 1A, 2 1B, 3 GND, 4 ~{A+B}, 5 VCC

## SN74LVC1G07DBVT
designator U?
IC Logic Open-Drain Buffer; Supplier 1: Digi-Key; Supplier Part Number 1: 296-26590-1-ND; Supplier 2: Digi-Key; Supplier 3: Digi-Key; Supplier Part Number 2: 296-8485-1-ND; Supplier Part Number 3: 296-35935-1-ND
footprint SOT23-5 (SOT23, 5-Leads, Body 2.90x2.45mm, Pitch 0.95mm, IPC Medium Density)
pins: 1 5 hidden to GND, 2 5, 3 GND, 4 11, 5 VCC

## SN74LVC1G08DBVR
designator U?
IC Logic AND 2 input; Supplier 1: Digi-Key; Supplier Part Number 1: 296-11601-1-ND; Supplier 2: Digi-Key; Supplier 3: Digi-Key; Supplier Part Number 2: 296-35939-1-ND; Supplier Part Number 3: 296-26592-1-ND
footprint SOT23-5 (SOT23, 5-Leads, Body 2.90x2.45mm, Pitch 0.95mm, IPC Medium Density)
pins: 1 5, 2 5, 3 GND, 4 11, 5 VCC

## SN74LVC1G32DBVR
designator U?
IC Logic OR 1 channel; Supplier 1: Digi-Key; Supplier Part Number 1: 296-9847-1-ND; Supplier 2: Digi-Key; Supplier Part Number 2: 296-35950-1-ND; Supplier 3: Digi-Key; Supplier Part Number 3: 296-26601-1-ND; Supplier 4: Digi-Key; Supplier Part Number 4: 296-22349-1-ND
footprint SOT23-5 (SOT23, 5-Leads, Body 2.90x2.45mm, Pitch 0.95mm, IPC Medium Density)
pins: 1 1A, 2 1B, 3 GND, 4 A+B, 5 VCC

## SN74LVC1G38DBVR
designator U?
IC Logic NAND gate 2 input open drain; Supplier 1: Digi-Key; Supplier 2: Digi-Key; Supplier Part Number 1: 296-17846-1-ND; Supplier Part Number 2: 296-SN74LVC1G38DBVTCT-ND
footprint SOT23-5 (SOT23, 5-Leads, Body 2.90x2.45mm, Pitch 0.95mm, IPC Medium Density)
pins: 1 5, 2 5, 3 GND, 4 11, 5 VCC

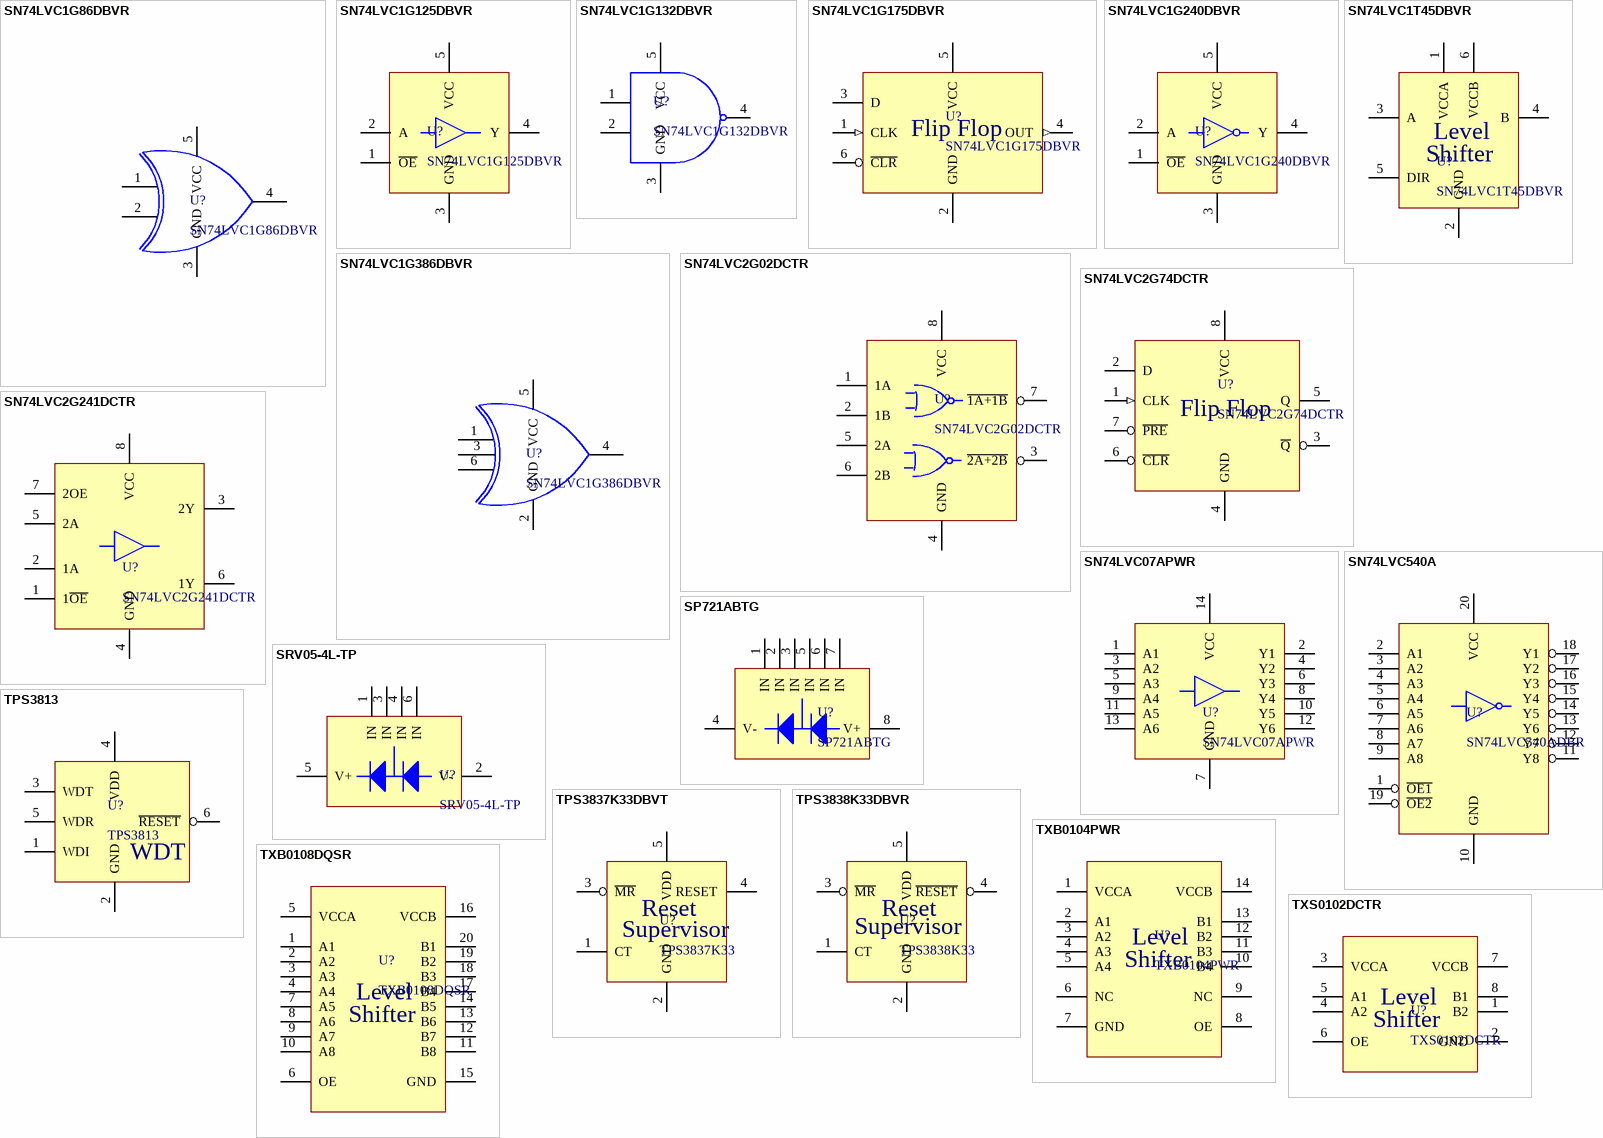
[diagram p11: symbols SN74LVC1G86DBVR to TXS0102DCTR]

## SN74LVC1G86DBVR
designator U?
IC Logic XOR 1 channel; Supplier 1: Digi-Key; Supplier Part Number 1: 296-9853-1-ND; Supplier 2: Digi-Key; Supplier 3: Digi-Key; Supplier Part Number 2: 296-46209-1-ND; Supplier Part Number 3: 296-32309-1-ND
footprint SOT23-5 (SOT23, 5-Leads, Body 2.90x2.45mm, Pitch 0.95mm, IPC Medium Density)
pins: 1 1A, 2 1B, 3 GND, 4 A+B, 5 VCC

## SN74LVC1G125DBVR
designator U?
IC Logic tri-state buffer 1 input; Supplier 1: Digi-Key; Supplier Part Number 1: 296-11603-1-ND; Supplier 2: Digi-Key; Supplier 3: Digi-Key; Supplier Part Number 2: 296-26595-1-ND; Supplier Part Number 3: NC7SZ125M5XCT-ND
footprint SOT23-5 (SOT23, 5-Leads, Body 2.90x2.45mm, Pitch 0.95mm, IPC Medium Density)
pins: 1 ~{OE}, 2 A, 3 GND, 4 Y, 5 VCC

## SN74LVC1G132DBVR
designator U?
IC Logic NAND gate 2 input; Supplier 1: Digi-Key; Supplier Part Number 1: 296-17888-1-ND; Supplier 2: Digi-Key; Supplier Part Number 2: 296-32295-1-ND; Supplier 3: Digi-Key; Supplier 4: Digi-Key; Supplier Part Number 3: 296-9845-1-ND; Supplier Part Number 4: 296-32286-1-ND
footprint SOT23-5 (SOT23, 5-Leads, Body 2.90x2.45mm, Pitch 0.95mm, IPC Medium Density)
pins: 1 5, 2 5, 3 GND, 4 11, 5 VCC

## SN74LVC1G175DBVR
designator U?
IC Logic D tye non-inverting flip-flop; Supplier 1: Digi-Key; Supplier Part Number 1: 296-17617-1-ND; Supplier 2: Mouser; Supplier 3: Digi-Key; Supplier Part Number 2: 595-SN74LVC1G175DBVR; Supplier Part Number 3: 296-32298-1-ND
footprint SOT23-6 (SOT23, 6-Leads, Body 2.90x2.45mm, Pitch 0.95mm, IPC Medium Density)
pins: 1 CLK (in), 2 GND, 3 D, 4 OUT (out), 5 VCC, 6 ~{CLR}
text: Flip Flop

## SN74LVC1G240DBVR
designator U?
IC Logic tri-state buffer inverting 1 input; Supplier 1: Digi-Key; Supplier 2: Digi-Key; Supplier Part Number 1: 296-11609-1-ND; Supplier Part Number 2: 296-32301-1-ND
footprint SOT23-5 (SOT23, 5-Leads, Body 2.90x2.45mm, Pitch 0.95mm, IPC Medium Density)
pins: 1 ~{OE}, 2 A, 3 GND, 4 Y, 5 VCC

## SN74LVC1G386DBVR
designator U?
IC Logic XOR 1 channel, 3 inputs; Supplier 1: Digi-Key; Supplier Part Number 1: 296-18779-1-ND; Supplier 2: Mouser; Supplier Part Number 2: 595-SN74LVC1G386DBVR
footprint SOT23-6 (SOT23, 6-Leads, Body 2.90x2.45mm, Pitch 0.95mm, IPC Medium Density)
pins: 1 1A, 2 GND, 3 1B, 4 A^B^C, 5 VCC, 6 1C

## SN74LVC1T45DBVR
designator U?
IC Level Shifter 1 bit; Supplier 1: Digi-Key; Supplier Part Number 1: 296-16843-1-ND; Supplier 2: Digi-Key; Supplier Part Number 2: 296-30381-1-ND
footprint SOT23-6 (SOT23, 6-Leads, Body 2.90x2.45mm, Pitch 0.95mm, IPC Medium Density)
pins: 1 VCCA, 2 GND, 3 A, 4 B, 5 DIR, 6 VCCB
text: Level; Shifter

## SN74LVC2G02DCTR
designator U?
IC Logic NOR 2 channel; Supplier 1: Digi-Key; Supplier Part Number 1: 296-13259-1-ND; Supplier 2: Digi-Key; Supplier Part Number 2: 1727-5986-1-ND
footprint SM8 0.65mm (TSOP, 8-Leads, Body 2.95x2.80mm, Pitch 0.65mm, IPC Medium Density)
pins: 1 1A, 2 1B, 3 ~{2A+2B}, 4 GND, 5 2A, 6 2B, 7 ~{1A+1B}, 8 VCC

## SN74LVC2G74DCTR
designator U?
IC Logic D type differential flip-flop; Supplier 1: Digi-Key; Supplier Part Number 1: 296-13273-1-ND; Supplier 2: Digi-Key; Supplier 3: Digi-Key; Supplier Part Number 2: 296-35957-1-ND; Supplier Part Number 3: 296-25553-1-ND
footprint SM8 0.65mm (TSOP, 8-Leads, Body 2.95x2.80mm, Pitch 0.65mm, IPC Medium Density)
pins: 1 CLK (in), 2 D, 3 ~{Q}, 4 GND, 5 Q, 6 ~{CLR}, 7 ~{PRE}, 8 VCC
text: Flip Flop

## SN74LVC2G241DCTR
designator U?
IC Logic buffer 2 input; Supplier 1: Digi-Key; Supplier 2: Newark; Supplier Part Number 1: 296-11935-1-ND; Supplier Part Number 2: 76C4199
footprint TSOP-8 0.65mm (TSOP, 8-Leads, Body 3.00x3.00mm, Pitch 0.65mm, IPC Medium Density)
pins: 1 1~{OE}, 2 1A, 3 2Y, 4 GND, 5 2A, 6 1Y, 7 2OE, 8 VCC

## SN74LVC07APWR
designator U?
IC Logic open-drain buffer 6 bit; Supplier 1: Digi-Key; Supplier Part Number 1: 296-8442-1-ND; Supplier 2: Digi-Key; Supplier 3: Digi-Key; Supplier Part Number 2: 296-31895-1-ND; Supplier Part Number 3: 296-41649-1-ND
footprint TSOP-14 0.65mm (TSOP, 14-Leads, Body 5.00x4.40mm, Pitch 0.65mm, IPC Medium Density)
pins: 1 A1, 2 Y1, 3 A2, 4 Y2, 5 A3, 6 Y3, 7 GND, 8 Y4, 9 A4, 10 Y5, 11 A5, 12 Y6, 13 A6, 14 VCC

## SN74LVC540A
designator U?, comment SN74LVC540ADBR
IC Logic inverting buffer 8 bit; Supplier 1: Digi-Key; Supplier Part Number 1: 296-8516-1-ND; Supplier 2: Digi-Key; Supplier 3: Digi-Key; Supplier Part Number 2: 296-4022-1-ND; Supplier Part Number 3: 296-8724-1-ND
footprint SOP-20 0.65mm (SOP, 20-Leads, Body 7.20x5.30mm, Pitch 0.65mm, IPC Medium Density)
pins: 1 ~{OE1}, 2 A1, 3 A2, 4 A3, 5 A4, 6 A5, 7 A6, 8 A7, 9 A8, 10 GND, 11 Y8, 12 Y7, 13 Y6, 14 Y5, 15 Y4, 16 Y3, 17 Y2, 18 Y1, 19 ~{OE2}, 20 VCC

## SP721ABTG
designator U?
IC ESD protection 6 input; Supplier 1: Digi-Key; Supplier Part Number 1: F3163CT-ND; Supplier 2: Digi-Key; Supplier 3: Digi-Key; Supplier 4: Digi-Key; Supplier Part Number 2: F2719-ND; Supplier Part Number 3: F2721-ND; Supplier Part Number 4: F3164CT-ND
footprint SOIC-8 (SOIC, 8-Leads, Body 4.90x3.90mm, Pitch 1.27mm, IPC Medium Density)
pins: 1 IN, 2 IN, 3 IN, 4 V-, 5 IN, 6 IN, 7 IN, 8 V+

## SRV05-4L-TP
designator U?
IC ESD protection 4 input; Supplier 1: Digi-Key; Supplier Part Number 1: SRV05-4L-TPMSCT-ND; Supplier 2: Digi-Key; Supplier Part Number 2: CDSOT23-SRV05-4CT-ND; Supplier 3: Digi-Key; Supplier Part Number 3: F4204CT-ND; Supplier 4: Digi-Key; Supplier Part Number 4: SRV05-4CT-ND; Supplier 5: Mouser; Supplier Part Number 5: 833-SRV05-4L-TP; Supplier 6: Mouser; Supplier Part Number 6: 947-SRV05-4.TCT
footprint SOT23-6 (SOT23, 6-Leads, Body 2.90x2.45mm, Pitch 0.95mm, IPC Medium Density)
pins: 1 IN, 2 V-, 3 IN, 4 IN, 5 V+, 6 IN

## TPS3813
designator U?
IC Supervisor Watchdog; Supplier 1: Digi-Key; Supplier Part Number 1: 296-10920-1-ND; Supplier 2: Digi-Key; Supplier Part Number 2: 296-39389-1-ND; Supplier 3: Digi-Key; Supplier Part Number 3: 296-22441-1-ND
footprint SOT23-6 (SOT23, 6-Leads, Body 2.90x2.45mm, Pitch 0.95mm, IPC Medium Density)
pins: 1 WDI, 2 GND (power), 3 WDT, 4 VDD (power), 5 WDR, 6 ~{RESET}

## TPS3837K33DBVT
designator U?, comment TPS3837K33
IC Supervisor Reset Active High; Supplier 1: Digi-Key; Supplier Part Number 1: 296-3345-1-ND; Supplier 2: Digi-Key; Supplier 3: Digi-Key; Supplier Part Number 2: 296-48739-1-ND; Supplier Part Number 3: 296-20786-1-ND
footprint SOT23-5 (SOT23, 5-Leads, Body 2.90x2.45mm, Pitch 0.95mm, IPC Medium Density)
pins: 1 CT, 2 GND, 3 ~{MR}, 4 RESET, 5 VDD
text: Reset; Supervisor

## TPS3838K33DBVR
designator U?, comment TPS3838K33
IC Supervisor Reset; Supplier 1: Digi-Key; Supplier Part Number 1: 296-26956-1-ND; Supplier 2: Digi-Key; Supplier Part Number 2: 296-3349-1-ND; Supplier 3: Digi-Key; Supplier Part Number 3: 296-15670-1-ND; Supplier 4: Mouser; Supplier Part Number 4: 595-TPS3838K33DBVR; Supplier 5: Mouser; Supplier Part Number 5: 595-TPS3838K33DBVT
footprint SOT23-5 (SOT23, 5-Leads, Body 2.90x2.45mm, Pitch 0.95mm, IPC Medium Density)
pins: 1 CT, 2 GND, 3 ~{MR}, 4 ~{RESET}, 5 VDD
text: Reset; Supervisor

## TXB0104PWR
designator U?
IC Level Shifter 4 bit bidirectional; Supplier 1: Digi-Key; Supplier Part Number 1: 296-21929-1-ND; Supplier 2: Digi-Key; Supplier 3: Digi-Key; Supplier 4: Digi-Key; Supplier Part Number 2: 296-27760-1-ND; Supplier Part Number 3: ADG3304BRUZ-REEL7CT-ND; Supplier Part Number 4: ADG3304BRUZ-ND
footprint TSOP-14 0.65mm (TSOP, 14-Leads, Body 5.00x4.40mm, Pitch 0.65mm, IPC Medium Density)
pins: 1 VCCA, 2 A1, 3 A2, 4 A3, 5 A4, 6 NC, 7 GND, 8 OE, 9 NC, 10 B4, 11 B3, 12 B2, 13 B1, 14 VCCB
text: Level; Shifter

## TXB0108DQSR
designator U?
IC Level Shifter 8 bit bidirectional; Supplier 1: Digi-Key; Supplier 2: Digi-Key; Supplier Part Number 1: 296-27217-1-ND; Supplier Part Number 2: NLSX3018MUTAGOSCT-ND
footprint SON-20 0.4mm (SON, 20-Leads, Body 4.00x2.00mm, Pitch 0.40mm, IPC Medium Density)
pins: 1 A1, 2 A2, 3 A3, 4 A4, 5 VCCA, 6 OE, 7 A5, 8 A6, 9 A7, 10 A8, 11 B8, 12 B7, 13 B6, 14 B5, 15 GND, 16 VCCB, 17 B4, 18 B3, 19 B2, 20 B1
text: Level; Shifter

## TXS0102DCTR
designator U?
IC Level Shifter 2 bit bidirectional; Supplier 1: Digi-Key; Supplier 2: Mouser; Supplier 3: Digi-Key; Supplier 4: Mouser; Supplier Part Number 1: 296-21978-1-ND; Supplier Part Number 2: 595-TXS0102DCTR; Supplier Part Number 3: 296-32603-1-ND; Supplier Part Number 4: 595-TXS0102DCTT
footprint SM8 0.65mm (TSOP, 8-Leads, Body 2.95x2.80mm, Pitch 0.65mm, IPC Medium Density)
pins: 1 B2, 2 GND, 3 VCCA, 4 A2, 5 A1, 6 OE, 7 VCCB, 8 B1
text: Level; Shifter